# Altium integrated library Renesas Microcontroller H8S.IntLib: 670 symbols (part 43 of 70)
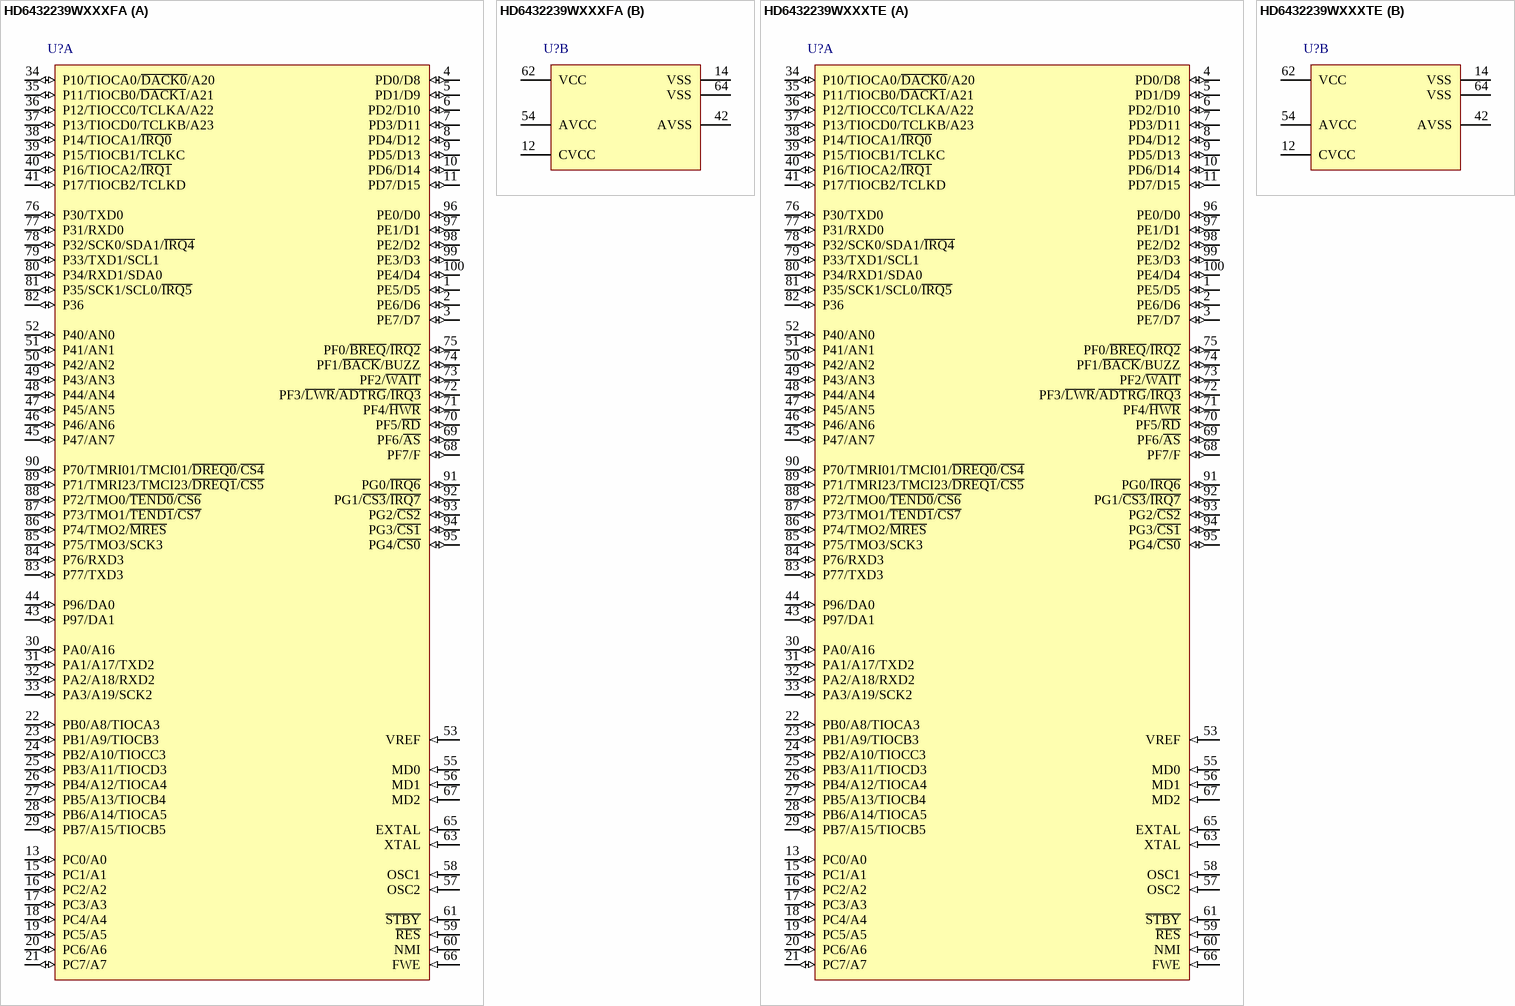
[diagram p266: symbols HD6432239WXXXFA to HD6432239WXXXTE]

## HD6432239WXXXTE
designator U?
Mask ROM H8S/2200 Series, 2239 Group MCU, 384K ROM, 32K RAM, TFP-100B Pkg; Published: 28-Aug-2009; DatasheetVersion: Rev.5.00, Aug-2006; PackageVersion: Sep-2005; PackageReference: PTQP0100KA-A; Publisher: Altium Limited; PackageDescription: 100-Pin Plastic Thin Quad Flat Pack, 14 x 14 x 1.0 mm Body, 0.5 mm Pitch; Code_JEITA: P-TQFP100-14x14-0.50; ComponentLink1Description: Manufacturer Link; ComponentLink1URL: http://sg.renesas.com/fmwk.jsp?cnt=h8s_family_landing.jsp&fp=/products/mpumcu/h8s_family/; ComponentLink2Description: Datasheet; ComponentLink2URL: http://documentation.renesas.com/eng/products/mpumcu/rej09b0054_h8s2239.pdf; ComponentLink3Description: Packaging Specification; ComponentLink3URL: http://sg.renesas.com/media/products/common_info/package/pdf/ic/code/ptqp0100ka_a.pdf
footprint PTQP0100KA-A_N (Thin QFP, 100-Leads, Body 14x14mm, Pitch 0.5mm, IPC Medium Density)
footprint PTQP0100KA-A_L (Thin QFP, 100-Leads, Body 14x14mm, Pitch 0.5mm, IPC High Density)
footprint PTQP0100KA-A_M (Thin QFP, 100-Leads, Body 14x14mm, Pitch 0.5mm, IPC Low Density)
part A pins: 1 PE5/D5 (io), 2 PE6/D6 (io), 3 PE7/D7 (io), 4 PD0/D8 (io), 5 PD1/D9 (io), 6 PD2/D10 (io), 7 PD3/D11 (io), 8 PD4/D12 (io), 9 PD5/D13 (io), 10 PD6/D14 (io), 11 PD7/D15 (io), 13 PC0/A0 (io), 15 PC1/A1 (io), 16 PC2/A2 (io), 17 PC3/A3 (io), 18 PC4/A4 (io), 19 PC5/A5 (io), 20 PC6/A6 (io), 21 PC7/A7 (io), 22 PB0/A8/TIOCA3 (io), 23 PB1/A9/TIOCB3 (io), 24 PB2/A10/TIOCC3 (io), 25 PB3/A11/TIOCD3 (io), 26 PB4/A12/TIOCA4 (io), 27 PB5/A13/TIOCB4 (io), 28 PB6/A14/TIOCA5 (io), 29 PB7/A15/TIOCB5 (io), 30 PA0/A16 (io), 31 PA1/A17/TXD2 (io), 32 PA2/A18/RXD2 (io), 33 PA3/A19/SCK2 (io), 34 P10/TIOCA0/~{DACK0}/A20 (io), 35 P11/TIOCB0/~{DACK1}/A21 (io), 36 P12/TIOCC0/TCLKA/A22 (io), 37 P13/TIOCD0/TCLKB/A23 (io), 38 P14/TIOCA1/~{IRQ0} (io), 39 P15/TIOCB1/TCLKC (io), 40 P16/TIOCA2/~{IRQ1} (io), 41 P17/TIOCB2/TCLKD (io), 43 P97/DA1 (io), 44 P96/DA0 (io), 45 P47/AN7 (io), 46 P46/AN6 (io), 47 P45/AN5 (io), 48 P44/AN4 (io), 49 P43/AN3 (io), 50 P42/AN2 (io), 51 P41/AN1 (io), 52 P40/AN0 (io), 53 VREF (in), 55 MD0 (in), 56 MD1 (in), 57 OSC2 (in), 58 OSC1 (in), 59 ~{RES} (in), 60 NMI (in), 61 ~{STBY} (in), 63 XTAL (in), 65 EXTAL (in), 66 FWE (in), 67 MD2 (in), 68 PF7/F (io), 69 PF6/~{AS} (io), 70 PF5/~{RD} (io), 71 PF4/~{HWR} (io), 72 PF3/~{LWR}/~{ADTRG}/~{IRQ3} (io), 73 PF2/~{WAIT} (io), 74 PF1/~{BACK}/BUZZ (io), 75 PF0/~{BREQ}/~{IRQ2} (io), 76 P30/TXD0 (io), 77 P31/RXD0 (io), 78 P32/SCK0/SDA1/~{IRQ4} (io), 79 P33/TXD1/SCL1 (io), 80 P34/RXD1/SDA0 (io), 81 P35/SCK1/SCL0/~{IRQ5} (io), 82 P36 (io), 83 P77/TXD3 (io), 84 P76/RXD3 (io), 85 P75/TMO3/SCK3 (io), 86 P74/TMO2/~{MRES} (io), 87 P73/TMO1/~{TEND1}/~{CS7} (io), 88 P72/TMO0/~{TEND0}/~{CS6} (io), 89 P71/TMRI23/TMCI23/~{DREQ1}/~{CS5} (io), 90 P70/TMRI01/TMCI01/~{DREQ0}/~{CS4} (io), 91 PG0/~{IRQ6} (io), 92 PG1/~{CS3}/~{IRQ7} (io), 93 PG2/~{CS2} (io), 94 PG3/~{CS1} (io), 95 PG4/~{CS0} (io), 96 PE0/D0 (io), 97 PE1/D1 (io), 98 PE2/D2 (io), 99 PE3/D3 (io), 100 PE4/D4 (io)
part B pins: 12 CVCC, 14 VSS (power), 42 AVSS (power), 54 AVCC (power), 62 VCC (power), 64 VSS (power)

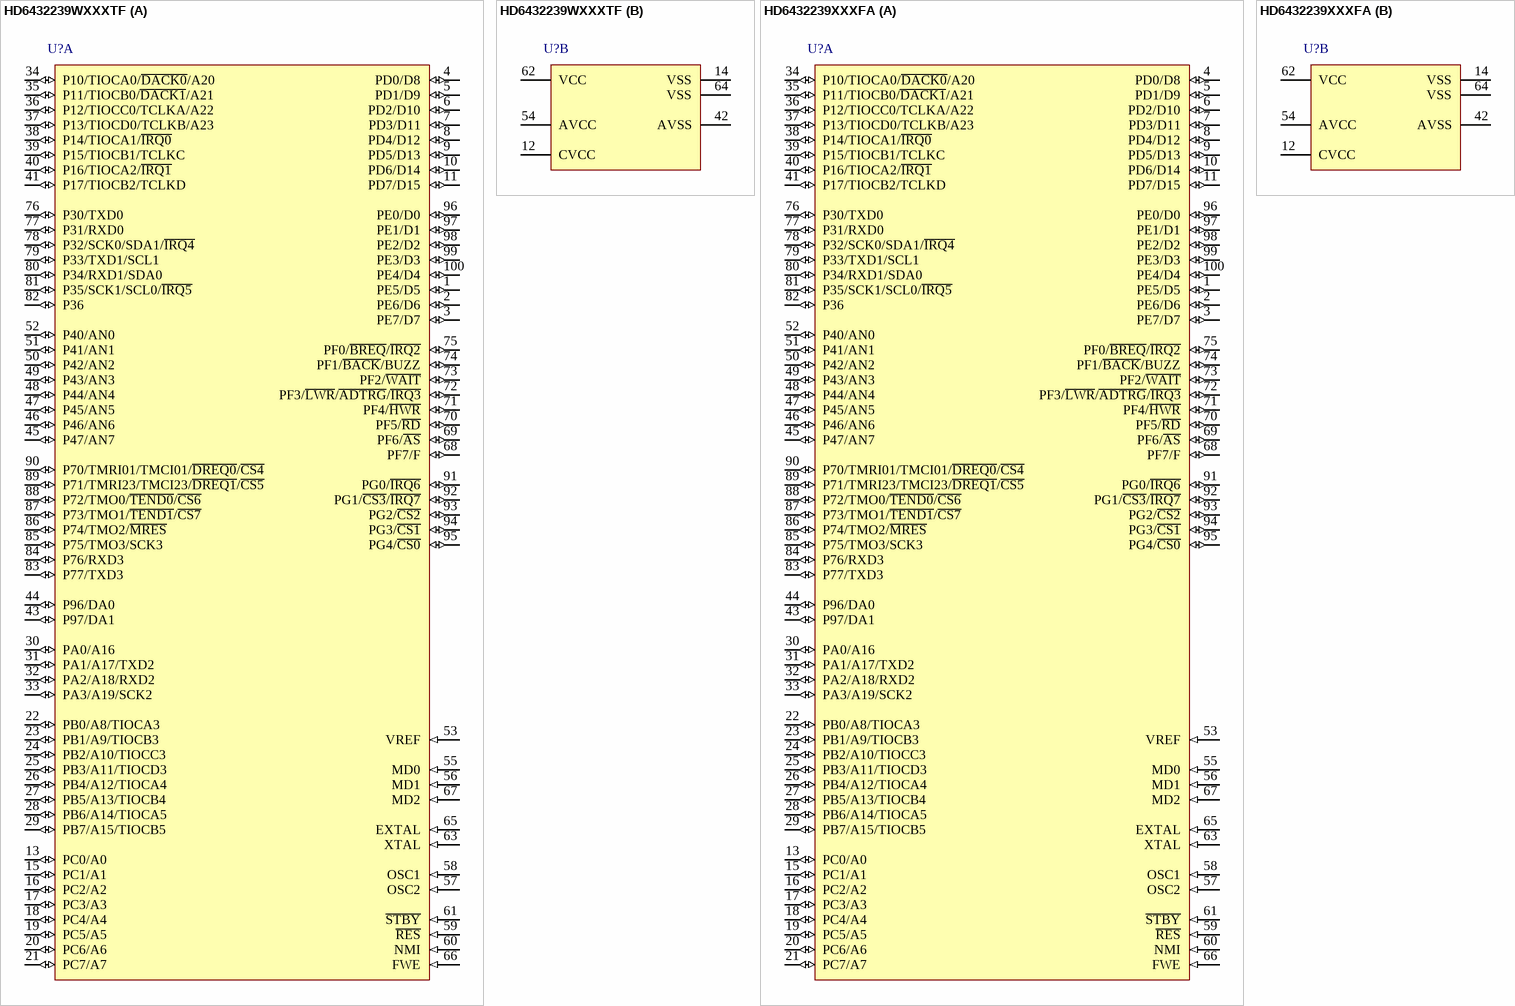
[diagram p148: symbols HD6432239WXXXTF to HD6432239XXXFA]

## HD6432239WXXXTF
designator U?
Mask ROM H8S/2200 Series, 2239 Group MCU, 384K ROM, 32K RAM, TFP-100G Pkg; Published: 28-Aug-2009; DatasheetVersion: Rev.5.00, Aug-2006; PackageVersion: Sep-2005; PackageReference: PTQP0100LC-A; Publisher: Altium Limited; PackageDescription: 100-Pin Plastic Thin QFP, 12 x 12 x 1.0 mm Body, 0.4 mm Pitch; Code_JEITA: P-TQFP100-12x12-0.40; ComponentLink1Description: Manufacturer Link; ComponentLink1URL: http://sg.renesas.com/fmwk.jsp?cnt=h8s_family_landing.jsp&fp=/products/mpumcu/h8s_family/; ComponentLink2Description: Datasheet; ComponentLink2URL: http://documentation.renesas.com/eng/products/mpumcu/rej09b0054_h8s2239.pdf; ComponentLink3Description: Packaging Specification; ComponentLink3URL: http://sg.renesas.com/media/products/common_info/package/pdf/ic/code/ptqp0100lc_a.pdf
footprint PTQP0100LC-A_N (Thin QFP, 100-Leads, Body 12x12mm, Pitch 0.4mm, IPC Medium Density)
footprint PTQP0100LC-A_L (Thin QFP, 100-Leads, Body 12x12mm, Pitch 0.4mm, IPC High Density)
footprint PTQP0100LC-A_M (Thin QFP, 100-Leads, Body 12x12mm, Pitch 0.4mm, IPC Low Density)
part A pins: 1 PE5/D5 (io), 2 PE6/D6 (io), 3 PE7/D7 (io), 4 PD0/D8 (io), 5 PD1/D9 (io), 6 PD2/D10 (io), 7 PD3/D11 (io), 8 PD4/D12 (io), 9 PD5/D13 (io), 10 PD6/D14 (io), 11 PD7/D15 (io), 13 PC0/A0 (io), 15 PC1/A1 (io), 16 PC2/A2 (io), 17 PC3/A3 (io), 18 PC4/A4 (io), 19 PC5/A5 (io), 20 PC6/A6 (io), 21 PC7/A7 (io), 22 PB0/A8/TIOCA3 (io), 23 PB1/A9/TIOCB3 (io), 24 PB2/A10/TIOCC3 (io), 25 PB3/A11/TIOCD3 (io), 26 PB4/A12/TIOCA4 (io), 27 PB5/A13/TIOCB4 (io), 28 PB6/A14/TIOCA5 (io), 29 PB7/A15/TIOCB5 (io), 30 PA0/A16 (io), 31 PA1/A17/TXD2 (io), 32 PA2/A18/RXD2 (io), 33 PA3/A19/SCK2 (io), 34 P10/TIOCA0/~{DACK0}/A20 (io), 35 P11/TIOCB0/~{DACK1}/A21 (io), 36 P12/TIOCC0/TCLKA/A22 (io), 37 P13/TIOCD0/TCLKB/A23 (io), 38 P14/TIOCA1/~{IRQ0} (io), 39 P15/TIOCB1/TCLKC (io), 40 P16/TIOCA2/~{IRQ1} (io), 41 P17/TIOCB2/TCLKD (io), 43 P97/DA1 (io), 44 P96/DA0 (io), 45 P47/AN7 (io), 46 P46/AN6 (io), 47 P45/AN5 (io), 48 P44/AN4 (io), 49 P43/AN3 (io), 50 P42/AN2 (io), 51 P41/AN1 (io), 52 P40/AN0 (io), 53 VREF (in), 55 MD0 (in), 56 MD1 (in), 57 OSC2 (in), 58 OSC1 (in), 59 ~{RES} (in), 60 NMI (in), 61 ~{STBY} (in), 63 XTAL (in), 65 EXTAL (in), 66 FWE (in), 67 MD2 (in), 68 PF7/F (io), 69 PF6/~{AS} (io), 70 PF5/~{RD} (io), 71 PF4/~{HWR} (io), 72 PF3/~{LWR}/~{ADTRG}/~{IRQ3} (io), 73 PF2/~{WAIT} (io), 74 PF1/~{BACK}/BUZZ (io), 75 PF0/~{BREQ}/~{IRQ2} (io), 76 P30/TXD0 (io), 77 P31/RXD0 (io), 78 P32/SCK0/SDA1/~{IRQ4} (io), 79 P33/TXD1/SCL1 (io), 80 P34/RXD1/SDA0 (io), 81 P35/SCK1/SCL0/~{IRQ5} (io), 82 P36 (io), 83 P77/TXD3 (io), 84 P76/RXD3 (io), 85 P75/TMO3/SCK3 (io), 86 P74/TMO2/~{MRES} (io), 87 P73/TMO1/~{TEND1}/~{CS7} (io), 88 P72/TMO0/~{TEND0}/~{CS6} (io), 89 P71/TMRI23/TMCI23/~{DREQ1}/~{CS5} (io), 90 P70/TMRI01/TMCI01/~{DREQ0}/~{CS4} (io), 91 PG0/~{IRQ6} (io), 92 PG1/~{CS3}/~{IRQ7} (io), 93 PG2/~{CS2} (io), 94 PG3/~{CS1} (io), 95 PG4/~{CS0} (io), 96 PE0/D0 (io), 97 PE1/D1 (io), 98 PE2/D2 (io), 99 PE3/D3 (io), 100 PE4/D4 (io)
part B pins: 12 CVCC, 14 VSS (power), 42 AVSS (power), 54 AVCC (power), 62 VCC (power), 64 VSS (power)

## HD6432239XXXFA
designator U?
Mask ROM H8S/2200 Series, 2239 Group MCU, 384K ROM, 32K RAM, FP-100B Pkg; Published: 28-Aug-2009; DatasheetVersion: Rev.5.00, Aug-2006; PackageVersion: Sep-2009; PackageReference: PRQP0100KA-A; Publisher: Altium Limited; PackageDescription: 100-Pin Plastic Quad Flat Pack, 14 x 14 x 2.7 mm Body, 0.5 mm Pitch; Code_JEITA: P-QFP100-14x14-0.50; ComponentLink1Description: Manufacturer Link; ComponentLink1URL: http://sg.renesas.com/fmwk.jsp?cnt=h8s_family_landing.jsp&fp=/products/mpumcu/h8s_family/; ComponentLink2Description: Datasheet; ComponentLink2URL: http://documentation.renesas.com/eng/products/mpumcu/rej09b0054_h8s2239.pdf; ComponentLink3Description: Packaging Specification; ComponentLink3URL: http://sg.renesas.com/media/products/common_info/package/pdf/ic/code/prqp0100ka_a.pdf
footprint PRQP0100KA-A_N (Shrink QFP, 100-Leads, Body 14x14mm, Pitch 0.5mm, IPC Medium Density)
footprint PRQP0100KA-A_L (Shrink QFP, 100-Leads, Body 14x14mm, Pitch 0.5mm, IPC High Density)
footprint PRQP0100KA-A_M (Shrink QFP, 100-Leads, Body 14x14mm, Pitch 0.5mm, IPC Low Density)
part A pins: 1 PE5/D5 (io), 2 PE6/D6 (io), 3 PE7/D7 (io), 4 PD0/D8 (io), 5 PD1/D9 (io), 6 PD2/D10 (io), 7 PD3/D11 (io), 8 PD4/D12 (io), 9 PD5/D13 (io), 10 PD6/D14 (io), 11 PD7/D15 (io), 13 PC0/A0 (io), 15 PC1/A1 (io), 16 PC2/A2 (io), 17 PC3/A3 (io), 18 PC4/A4 (io), 19 PC5/A5 (io), 20 PC6/A6 (io), 21 PC7/A7 (io), 22 PB0/A8/TIOCA3 (io), 23 PB1/A9/TIOCB3 (io), 24 PB2/A10/TIOCC3 (io), 25 PB3/A11/TIOCD3 (io), 26 PB4/A12/TIOCA4 (io), 27 PB5/A13/TIOCB4 (io), 28 PB6/A14/TIOCA5 (io), 29 PB7/A15/TIOCB5 (io), 30 PA0/A16 (io), 31 PA1/A17/TXD2 (io), 32 PA2/A18/RXD2 (io), 33 PA3/A19/SCK2 (io), 34 P10/TIOCA0/~{DACK0}/A20 (io), 35 P11/TIOCB0/~{DACK1}/A21 (io), 36 P12/TIOCC0/TCLKA/A22 (io), 37 P13/TIOCD0/TCLKB/A23 (io), 38 P14/TIOCA1/~{IRQ0} (io), 39 P15/TIOCB1/TCLKC (io), 40 P16/TIOCA2/~{IRQ1} (io), 41 P17/TIOCB2/TCLKD (io), 43 P97/DA1 (io), 44 P96/DA0 (io), 45 P47/AN7 (io), 46 P46/AN6 (io), 47 P45/AN5 (io), 48 P44/AN4 (io), 49 P43/AN3 (io), 50 P42/AN2 (io), 51 P41/AN1 (io), 52 P40/AN0 (io), 53 VREF (in), 55 MD0 (in), 56 MD1 (in), 57 OSC2 (in), 58 OSC1 (in), 59 ~{RES} (in), 60 NMI (in), 61 ~{STBY} (in), 63 XTAL (in), 65 EXTAL (in), 66 FWE (in), 67 MD2 (in), 68 PF7/F (io), 69 PF6/~{AS} (io), 70 PF5/~{RD} (io), 71 PF4/~{HWR} (io), 72 PF3/~{LWR}/~{ADTRG}/~{IRQ3} (io), 73 PF2/~{WAIT} (io), 74 PF1/~{BACK}/BUZZ (io), 75 PF0/~{BREQ}/~{IRQ2} (io), 76 P30/TXD0 (io), 77 P31/RXD0 (io), 78 P32/SCK0/SDA1/~{IRQ4} (io), 79 P33/TXD1/SCL1 (io), 80 P34/RXD1/SDA0 (io), 81 P35/SCK1/SCL0/~{IRQ5} (io), 82 P36 (io), 83 P77/TXD3 (io), 84 P76/RXD3 (io), 85 P75/TMO3/SCK3 (io), 86 P74/TMO2/~{MRES} (io), 87 P73/TMO1/~{TEND1}/~{CS7} (io), 88 P72/TMO0/~{TEND0}/~{CS6} (io), 89 P71/TMRI23/TMCI23/~{DREQ1}/~{CS5} (io), 90 P70/TMRI01/TMCI01/~{DREQ0}/~{CS4} (io), 91 PG0/~{IRQ6} (io), 92 PG1/~{CS3}/~{IRQ7} (io), 93 PG2/~{CS2} (io), 94 PG3/~{CS1} (io), 95 PG4/~{CS0} (io), 96 PE0/D0 (io), 97 PE1/D1 (io), 98 PE2/D2 (io), 99 PE3/D3 (io), 100 PE4/D4 (io)
part B pins: 12 CVCC, 14 VSS (power), 42 AVSS (power), 54 AVCC (power), 62 VCC (power), 64 VSS (power)

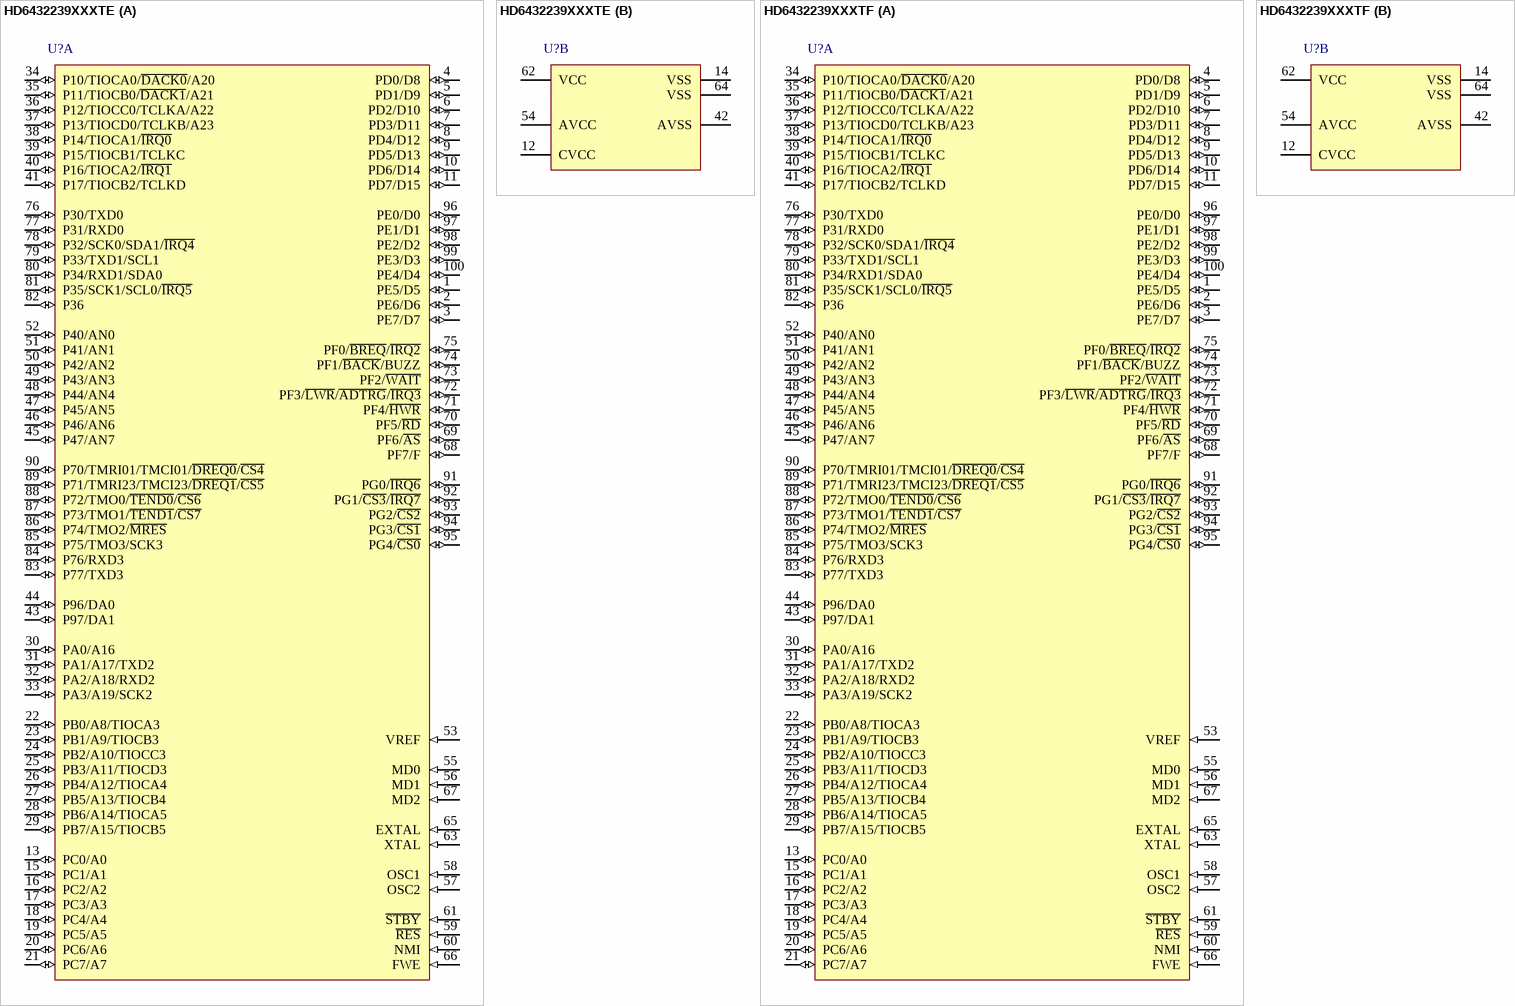
[diagram p149: symbols HD6432239XXXTE to HD6432239XXXTF]

## HD6432239XXXTE
designator U?
Mask ROM H8S/2200 Series, 2239 Group MCU, 384K ROM, 32K RAM, TFP-100B Pkg; Published: 28-Aug-2009; DatasheetVersion: Rev.5.00, Aug-2006; PackageVersion: Sep-2005; PackageReference: PTQP0100KA-A; Publisher: Altium Limited; PackageDescription: 100-Pin Plastic Thin Quad Flat Pack, 14 x 14 x 1.0 mm Body, 0.5 mm Pitch; Code_JEITA: P-TQFP100-14x14-0.50; ComponentLink1Description: Manufacturer Link; ComponentLink1URL: http://sg.renesas.com/fmwk.jsp?cnt=h8s_family_landing.jsp&fp=/products/mpumcu/h8s_family/; ComponentLink2Description: Datasheet; ComponentLink2URL: http://documentation.renesas.com/eng/products/mpumcu/rej09b0054_h8s2239.pdf; ComponentLink3Description: Packaging Specification; ComponentLink3URL: http://sg.renesas.com/media/products/common_info/package/pdf/ic/code/ptqp0100ka_a.pdf
footprint PTQP0100KA-A_N (Thin QFP, 100-Leads, Body 14x14mm, Pitch 0.5mm, IPC Medium Density)
footprint PTQP0100KA-A_L (Thin QFP, 100-Leads, Body 14x14mm, Pitch 0.5mm, IPC High Density)
footprint PTQP0100KA-A_M (Thin QFP, 100-Leads, Body 14x14mm, Pitch 0.5mm, IPC Low Density)
part A pins: 1 PE5/D5 (io), 2 PE6/D6 (io), 3 PE7/D7 (io), 4 PD0/D8 (io), 5 PD1/D9 (io), 6 PD2/D10 (io), 7 PD3/D11 (io), 8 PD4/D12 (io), 9 PD5/D13 (io), 10 PD6/D14 (io), 11 PD7/D15 (io), 13 PC0/A0 (io), 15 PC1/A1 (io), 16 PC2/A2 (io), 17 PC3/A3 (io), 18 PC4/A4 (io), 19 PC5/A5 (io), 20 PC6/A6 (io), 21 PC7/A7 (io), 22 PB0/A8/TIOCA3 (io), 23 PB1/A9/TIOCB3 (io), 24 PB2/A10/TIOCC3 (io), 25 PB3/A11/TIOCD3 (io), 26 PB4/A12/TIOCA4 (io), 27 PB5/A13/TIOCB4 (io), 28 PB6/A14/TIOCA5 (io), 29 PB7/A15/TIOCB5 (io), 30 PA0/A16 (io), 31 PA1/A17/TXD2 (io), 32 PA2/A18/RXD2 (io), 33 PA3/A19/SCK2 (io), 34 P10/TIOCA0/~{DACK0}/A20 (io), 35 P11/TIOCB0/~{DACK1}/A21 (io), 36 P12/TIOCC0/TCLKA/A22 (io), 37 P13/TIOCD0/TCLKB/A23 (io), 38 P14/TIOCA1/~{IRQ0} (io), 39 P15/TIOCB1/TCLKC (io), 40 P16/TIOCA2/~{IRQ1} (io), 41 P17/TIOCB2/TCLKD (io), 43 P97/DA1 (io), 44 P96/DA0 (io), 45 P47/AN7 (io), 46 P46/AN6 (io), 47 P45/AN5 (io), 48 P44/AN4 (io), 49 P43/AN3 (io), 50 P42/AN2 (io), 51 P41/AN1 (io), 52 P40/AN0 (io), 53 VREF (in), 55 MD0 (in), 56 MD1 (in), 57 OSC2 (in), 58 OSC1 (in), 59 ~{RES} (in), 60 NMI (in), 61 ~{STBY} (in), 63 XTAL (in), 65 EXTAL (in), 66 FWE (in), 67 MD2 (in), 68 PF7/F (io), 69 PF6/~{AS} (io), 70 PF5/~{RD} (io), 71 PF4/~{HWR} (io), 72 PF3/~{LWR}/~{ADTRG}/~{IRQ3} (io), 73 PF2/~{WAIT} (io), 74 PF1/~{BACK}/BUZZ (io), 75 PF0/~{BREQ}/~{IRQ2} (io), 76 P30/TXD0 (io), 77 P31/RXD0 (io), 78 P32/SCK0/SDA1/~{IRQ4} (io), 79 P33/TXD1/SCL1 (io), 80 P34/RXD1/SDA0 (io), 81 P35/SCK1/SCL0/~{IRQ5} (io), 82 P36 (io), 83 P77/TXD3 (io), 84 P76/RXD3 (io), 85 P75/TMO3/SCK3 (io), 86 P74/TMO2/~{MRES} (io), 87 P73/TMO1/~{TEND1}/~{CS7} (io), 88 P72/TMO0/~{TEND0}/~{CS6} (io), 89 P71/TMRI23/TMCI23/~{DREQ1}/~{CS5} (io), 90 P70/TMRI01/TMCI01/~{DREQ0}/~{CS4} (io), 91 PG0/~{IRQ6} (io), 92 PG1/~{CS3}/~{IRQ7} (io), 93 PG2/~{CS2} (io), 94 PG3/~{CS1} (io), 95 PG4/~{CS0} (io), 96 PE0/D0 (io), 97 PE1/D1 (io), 98 PE2/D2 (io), 99 PE3/D3 (io), 100 PE4/D4 (io)
part B pins: 12 CVCC, 14 VSS (power), 42 AVSS (power), 54 AVCC (power), 62 VCC (power), 64 VSS (power)

## HD6432239XXXTF
designator U?
Mask ROM H8S/2200 Series, 2239 Group MCU, 384K ROM, 32K RAM, TFP-100G Pkg; Published: 28-Aug-2009; DatasheetVersion: Rev.5.00, Aug-2006; PackageVersion: Sep-2005; PackageReference: PTQP0100LC-A; Publisher: Altium Limited; PackageDescription: 100-Pin Plastic Thin QFP, 12 x 12 x 1.0 mm Body, 0.4 mm Pitch; Code_JEITA: P-TQFP100-12x12-0.40; ComponentLink1Description: Manufacturer Link; ComponentLink1URL: http://sg.renesas.com/fmwk.jsp?cnt=h8s_family_landing.jsp&fp=/products/mpumcu/h8s_family/; ComponentLink2Description: Datasheet; ComponentLink2URL: http://documentation.renesas.com/eng/products/mpumcu/rej09b0054_h8s2239.pdf; ComponentLink3Description: Packaging Specification; ComponentLink3URL: http://sg.renesas.com/media/products/common_info/package/pdf/ic/code/ptqp0100lc_a.pdf
footprint PTQP0100LC-A_N (Thin QFP, 100-Leads, Body 12x12mm, Pitch 0.4mm, IPC Medium Density)
footprint PTQP0100LC-A_L (Thin QFP, 100-Leads, Body 12x12mm, Pitch 0.4mm, IPC High Density)
footprint PTQP0100LC-A_M (Thin QFP, 100-Leads, Body 12x12mm, Pitch 0.4mm, IPC Low Density)
part A pins: 1 PE5/D5 (io), 2 PE6/D6 (io), 3 PE7/D7 (io), 4 PD0/D8 (io), 5 PD1/D9 (io), 6 PD2/D10 (io), 7 PD3/D11 (io), 8 PD4/D12 (io), 9 PD5/D13 (io), 10 PD6/D14 (io), 11 PD7/D15 (io), 13 PC0/A0 (io), 15 PC1/A1 (io), 16 PC2/A2 (io), 17 PC3/A3 (io), 18 PC4/A4 (io), 19 PC5/A5 (io), 20 PC6/A6 (io), 21 PC7/A7 (io), 22 PB0/A8/TIOCA3 (io), 23 PB1/A9/TIOCB3 (io), 24 PB2/A10/TIOCC3 (io), 25 PB3/A11/TIOCD3 (io), 26 PB4/A12/TIOCA4 (io), 27 PB5/A13/TIOCB4 (io), 28 PB6/A14/TIOCA5 (io), 29 PB7/A15/TIOCB5 (io), 30 PA0/A16 (io), 31 PA1/A17/TXD2 (io), 32 PA2/A18/RXD2 (io), 33 PA3/A19/SCK2 (io), 34 P10/TIOCA0/~{DACK0}/A20 (io), 35 P11/TIOCB0/~{DACK1}/A21 (io), 36 P12/TIOCC0/TCLKA/A22 (io), 37 P13/TIOCD0/TCLKB/A23 (io), 38 P14/TIOCA1/~{IRQ0} (io), 39 P15/TIOCB1/TCLKC (io), 40 P16/TIOCA2/~{IRQ1} (io), 41 P17/TIOCB2/TCLKD (io), 43 P97/DA1 (io), 44 P96/DA0 (io), 45 P47/AN7 (io), 46 P46/AN6 (io), 47 P45/AN5 (io), 48 P44/AN4 (io), 49 P43/AN3 (io), 50 P42/AN2 (io), 51 P41/AN1 (io), 52 P40/AN0 (io), 53 VREF (in), 55 MD0 (in), 56 MD1 (in), 57 OSC2 (in), 58 OSC1 (in), 59 ~{RES} (in), 60 NMI (in), 61 ~{STBY} (in), 63 XTAL (in), 65 EXTAL (in), 66 FWE (in), 67 MD2 (in), 68 PF7/F (io), 69 PF6/~{AS} (io), 70 PF5/~{RD} (io), 71 PF4/~{HWR} (io), 72 PF3/~{LWR}/~{ADTRG}/~{IRQ3} (io), 73 PF2/~{WAIT} (io), 74 PF1/~{BACK}/BUZZ (io), 75 PF0/~{BREQ}/~{IRQ2} (io), 76 P30/TXD0 (io), 77 P31/RXD0 (io), 78 P32/SCK0/SDA1/~{IRQ4} (io), 79 P33/TXD1/SCL1 (io), 80 P34/RXD1/SDA0 (io), 81 P35/SCK1/SCL0/~{IRQ5} (io), 82 P36 (io), 83 P77/TXD3 (io), 84 P76/RXD3 (io), 85 P75/TMO3/SCK3 (io), 86 P74/TMO2/~{MRES} (io), 87 P73/TMO1/~{TEND1}/~{CS7} (io), 88 P72/TMO0/~{TEND0}/~{CS6} (io), 89 P71/TMRI23/TMCI23/~{DREQ1}/~{CS5} (io), 90 P70/TMRI01/TMCI01/~{DREQ0}/~{CS4} (io), 91 PG0/~{IRQ6} (io), 92 PG1/~{CS3}/~{IRQ7} (io), 93 PG2/~{CS2} (io), 94 PG3/~{CS1} (io), 95 PG4/~{CS0} (io), 96 PE0/D0 (io), 97 PE1/D1 (io), 98 PE2/D2 (io), 99 PE3/D3 (io), 100 PE4/D4 (io)
part B pins: 12 CVCC, 14 VSS (power), 42 AVSS (power), 54 AVCC (power), 62 VCC (power), 64 VSS (power)

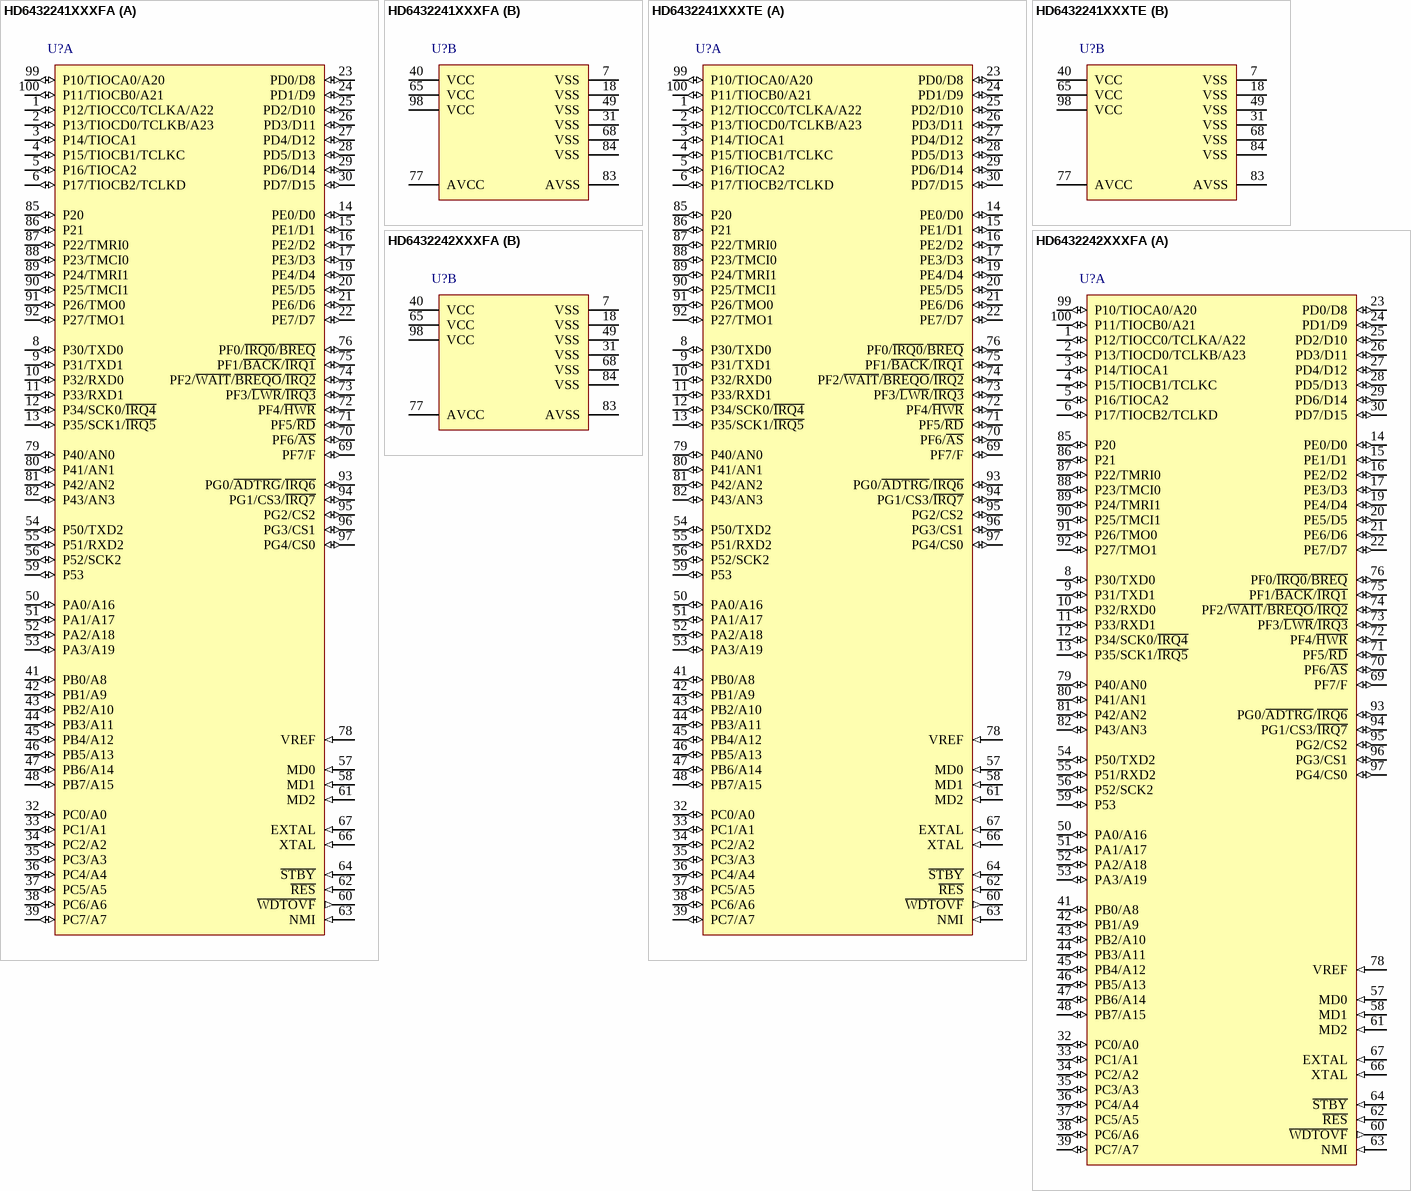
[diagram p150: symbols HD6432241XXXFA to HD6432242XXXFA]

## HD6432241XXXFA
designator U?
Mask ROM H8S/2200 Series, 2245 Group MCU, 32K ROM, 4K RAM, FP-100B Pkg; Published: 28-Aug-2009; DatasheetVersion: Rev.3.00, Mar-2007; PackageVersion: Sep-2009; PackageReference: PRQP0100KA-A; Publisher: Altium Limited; PackageDescription: 100-Pin Plastic Quad Flat Pack, 14 x 14 x 2.7 mm Body, 0.5 mm Pitch; Code_JEITA: P-QFP100-14x14-0.50; ComponentLink1Description: Manufacturer Link; ComponentLink1URL: http://sg.renesas.com/fmwk.jsp?cnt=h8s_family_landing.jsp&fp=/products/mpumcu/h8s_family/; ComponentLink2Description: Datasheet; ComponentLink2URL: http://documentation.renesas.com/eng/products/mpumcu/rej09b0355_2245hm.pdf; ComponentLink3Description: Packaging Specification; ComponentLink3URL: http://sg.renesas.com/media/products/common_info/package/pdf/ic/code/prqp0100ka_a.pdf
footprint PRQP0100KA-A_N (Shrink QFP, 100-Leads, Body 14x14mm, Pitch 0.5mm, IPC Medium Density)
footprint PRQP0100KA-A_L (Shrink QFP, 100-Leads, Body 14x14mm, Pitch 0.5mm, IPC High Density)
footprint PRQP0100KA-A_M (Shrink QFP, 100-Leads, Body 14x14mm, Pitch 0.5mm, IPC Low Density)
part A pins: 1 P12/TIOCC0/TCLKA/A22 (io), 2 P13/TIOCD0/TCLKB/A23 (io), 3 P14/TIOCA1 (io), 4 P15/TIOCB1/TCLKC (io), 5 P16/TIOCA2 (io), 6 P17/TIOCB2/TCLKD (io), 8 P30/TXD0 (io), 9 P31/TXD1 (io), 10 P32/RXD0 (io), 11 P33/RXD1 (io), 12 P34/SCK0/~{IRQ4} (io), 13 P35/SCK1/~{IRQ5} (io), 14 PE0/D0 (io), 15 PE1/D1 (io), 16 PE2/D2 (io), 17 PE3/D3 (io), 19 PE4/D4 (io), 20 PE5/D5 (io), 21 PE6/D6 (io), 22 PE7/D7 (io), 23 PD0/D8 (io), 24 PD1/D9 (io), 25 PD2/D10 (io), 26 PD3/D11 (io), 27 PD4/D12 (io), 28 PD5/D13 (io), 29 PD6/D14 (io), 30 PD7/D15 (io), 32 PC0/A0 (io), 33 PC1/A1 (io), 34 PC2/A2 (io), 35 PC3/A3 (io), 36 PC4/A4 (io), 37 PC5/A5 (io), 38 PC6/A6 (io), 39 PC7/A7 (io), 41 PB0/A8 (io), 42 PB1/A9 (io), 43 PB2/A10 (io), 44 PB3/A11 (io), 45 PB4/A12 (io), 46 PB5/A13 (io), 47 PB6/A14 (io), 48 PB7/A15 (io), 50 PA0/A16 (io), 51 PA1/A17 (io), 52 PA2/A18 (io), 53 PA3/A19 (io), 54 P50/TXD2 (io), 55 P51/RXD2 (io), 56 P52/SCK2 (io), 57 MD0 (in), 58 MD1 (in), 59 P53 (io), 60 ~{WDTOVF} (out), 61 MD2 (in), 62 ~{RES} (in), 63 NMI (in), 64 ~{STBY} (in), 66 XTAL (in), 67 EXTAL (in), 69 PF7/F (io), 70 PF6/~{AS} (io), 71 PF5/~{RD} (io), 72 PF4/~{HWR} (io), 73 PF3/~{LWR}/~{IRQ3} (io), 74 PF2/~{WAIT}/~{BREQO}/~{IRQ2} (io), 75 PF1/~{BACK}/~{IRQ1} (io), 76 PF0/~{IRQ0}/~{BREQ} (io), 78 VREF (in), 79 P40/AN0 (io), 80 P41/AN1 (io), 81 P42/AN2 (io), 82 P43/AN3 (io), 85 P20 (io), 86 P21 (io), 87 P22/TMRI0 (io), 88 P23/TMCI0 (io), 89 P24/TMRI1 (io), 90 P25/TMCI1 (io), 91 P26/TMO0 (io), 92 P27/TMO1 (io), 93 PG0/~{ADTRG}/~{IRQ6} (io), 94 PG1/CS3/~{IRQ7} (io), 95 PG2/CS2 (io), 96 PG3/CS1 (io), 97 PG4/CS0 (io), 99 P10/TIOCA0/A20 (io), 100 P11/TIOCB0/A21 (io)
part B pins: 7 VSS (power), 18 VSS (power), 31 VSS (power), 40 VCC (power), 49 VSS (power), 65 VCC (power), 68 VSS (power), 77 AVCC (power), 83 AVSS (power), 84 VSS (power), 98 VCC (power)

## HD6432241XXXTE
designator U?
Mask ROM H8S/2200 Series, 2245 Group MCU, 32K ROM, 4K RAM, TFP-100B Pkg; Published: 28-Aug-2009; DatasheetVersion: Rev.3.00, Mar-2007; PackageVersion: Sep-2005; PackageReference: PTQP0100KA-A; Publisher: Altium Limited; PackageDescription: 100-Pin Plastic Thin Quad Flat Pack, 14 x 14 x 1.0 mm Body, 0.5 mm Pitch; Code_JEITA: P-TQFP100-14x14-0.50; ComponentLink1Description: Manufacturer Link; ComponentLink1URL: http://sg.renesas.com/fmwk.jsp?cnt=h8s_family_landing.jsp&fp=/products/mpumcu/h8s_family/; ComponentLink2Description: Datasheet; ComponentLink2URL: http://documentation.renesas.com/eng/products/mpumcu/rej09b0355_2245hm.pdf; ComponentLink3Description: Packaging Specification; ComponentLink3URL: http://sg.renesas.com/media/products/common_info/package/pdf/ic/code/ptqp0100ka_a.pdf
footprint PTQP0100KA-A_N (Thin QFP, 100-Leads, Body 14x14mm, Pitch 0.5mm, IPC Medium Density)
footprint PTQP0100KA-A_L (Thin QFP, 100-Leads, Body 14x14mm, Pitch 0.5mm, IPC High Density)
footprint PTQP0100KA-A_M (Thin QFP, 100-Leads, Body 14x14mm, Pitch 0.5mm, IPC Low Density)
part A pins: 1 P12/TIOCC0/TCLKA/A22 (io), 2 P13/TIOCD0/TCLKB/A23 (io), 3 P14/TIOCA1 (io), 4 P15/TIOCB1/TCLKC (io), 5 P16/TIOCA2 (io), 6 P17/TIOCB2/TCLKD (io), 8 P30/TXD0 (io), 9 P31/TXD1 (io), 10 P32/RXD0 (io), 11 P33/RXD1 (io), 12 P34/SCK0/~{IRQ4} (io), 13 P35/SCK1/~{IRQ5} (io), 14 PE0/D0 (io), 15 PE1/D1 (io), 16 PE2/D2 (io), 17 PE3/D3 (io), 19 PE4/D4 (io), 20 PE5/D5 (io), 21 PE6/D6 (io), 22 PE7/D7 (io), 23 PD0/D8 (io), 24 PD1/D9 (io), 25 PD2/D10 (io), 26 PD3/D11 (io), 27 PD4/D12 (io), 28 PD5/D13 (io), 29 PD6/D14 (io), 30 PD7/D15 (io), 32 PC0/A0 (io), 33 PC1/A1 (io), 34 PC2/A2 (io), 35 PC3/A3 (io), 36 PC4/A4 (io), 37 PC5/A5 (io), 38 PC6/A6 (io), 39 PC7/A7 (io), 41 PB0/A8 (io), 42 PB1/A9 (io), 43 PB2/A10 (io), 44 PB3/A11 (io), 45 PB4/A12 (io), 46 PB5/A13 (io), 47 PB6/A14 (io), 48 PB7/A15 (io), 50 PA0/A16 (io), 51 PA1/A17 (io), 52 PA2/A18 (io), 53 PA3/A19 (io), 54 P50/TXD2 (io), 55 P51/RXD2 (io), 56 P52/SCK2 (io), 57 MD0 (in), 58 MD1 (in), 59 P53 (io), 60 ~{WDTOVF} (out), 61 MD2 (in), 62 ~{RES} (in), 63 NMI (in), 64 ~{STBY} (in), 66 XTAL (in), 67 EXTAL (in), 69 PF7/F (io), 70 PF6/~{AS} (io), 71 PF5/~{RD} (io), 72 PF4/~{HWR} (io), 73 PF3/~{LWR}/~{IRQ3} (io), 74 PF2/~{WAIT}/~{BREQO}/~{IRQ2} (io), 75 PF1/~{BACK}/~{IRQ1} (io), 76 PF0/~{IRQ0}/~{BREQ} (io), 78 VREF (in), 79 P40/AN0 (io), 80 P41/AN1 (io), 81 P42/AN2 (io), 82 P43/AN3 (io), 85 P20 (io), 86 P21 (io), 87 P22/TMRI0 (io), 88 P23/TMCI0 (io), 89 P24/TMRI1 (io), 90 P25/TMCI1 (io), 91 P26/TMO0 (io), 92 P27/TMO1 (io), 93 PG0/~{ADTRG}/~{IRQ6} (io), 94 PG1/CS3/~{IRQ7} (io), 95 PG2/CS2 (io), 96 PG3/CS1 (io), 97 PG4/CS0 (io), 99 P10/TIOCA0/A20 (io), 100 P11/TIOCB0/A21 (io)
part B pins: 7 VSS (power), 18 VSS (power), 31 VSS (power), 40 VCC (power), 49 VSS (power), 65 VCC (power), 68 VSS (power), 77 AVCC (power), 83 AVSS (power), 84 VSS (power), 98 VCC (power)

## HD6432242XXXFA
designator U?
Mask ROM H8S/2200 Series, 2245 Group MCU, 32K ROM, 8K RAM, FP-100B Pkg; Published: 28-Aug-2009; DatasheetVersion: Rev.3.00, Mar-2007; PackageVersion: Sep-2009; PackageReference: PRQP0100KA-A; Publisher: Altium Limited; PackageDescription: 100-Pin Plastic Quad Flat Pack, 14 x 14 x 2.7 mm Body, 0.5 mm Pitch; Code_JEITA: P-QFP100-14x14-0.50; ComponentLink1Description: Manufacturer Link; ComponentLink1URL: http://sg.renesas.com/fmwk.jsp?cnt=h8s_family_landing.jsp&fp=/products/mpumcu/h8s_family/; ComponentLink2Description: Datasheet; ComponentLink2URL: http://documentation.renesas.com/eng/products/mpumcu/rej09b0355_2245hm.pdf; ComponentLink3Description: Packaging Specification; ComponentLink3URL: http://sg.renesas.com/media/products/common_info/package/pdf/ic/code/prqp0100ka_a.pdf
footprint PRQP0100KA-A_N (Shrink QFP, 100-Leads, Body 14x14mm, Pitch 0.5mm, IPC Medium Density)
footprint PRQP0100KA-A_L (Shrink QFP, 100-Leads, Body 14x14mm, Pitch 0.5mm, IPC High Density)
footprint PRQP0100KA-A_M (Shrink QFP, 100-Leads, Body 14x14mm, Pitch 0.5mm, IPC Low Density)
part A pins: 1 P12/TIOCC0/TCLKA/A22 (io), 2 P13/TIOCD0/TCLKB/A23 (io), 3 P14/TIOCA1 (io), 4 P15/TIOCB1/TCLKC (io), 5 P16/TIOCA2 (io), 6 P17/TIOCB2/TCLKD (io), 8 P30/TXD0 (io), 9 P31/TXD1 (io), 10 P32/RXD0 (io), 11 P33/RXD1 (io), 12 P34/SCK0/~{IRQ4} (io), 13 P35/SCK1/~{IRQ5} (io), 14 PE0/D0 (io), 15 PE1/D1 (io), 16 PE2/D2 (io), 17 PE3/D3 (io), 19 PE4/D4 (io), 20 PE5/D5 (io), 21 PE6/D6 (io), 22 PE7/D7 (io), 23 PD0/D8 (io), 24 PD1/D9 (io), 25 PD2/D10 (io), 26 PD3/D11 (io), 27 PD4/D12 (io), 28 PD5/D13 (io), 29 PD6/D14 (io), 30 PD7/D15 (io), 32 PC0/A0 (io), 33 PC1/A1 (io), 34 PC2/A2 (io), 35 PC3/A3 (io), 36 PC4/A4 (io), 37 PC5/A5 (io), 38 PC6/A6 (io), 39 PC7/A7 (io), 41 PB0/A8 (io), 42 PB1/A9 (io), 43 PB2/A10 (io), 44 PB3/A11 (io), 45 PB4/A12 (io), 46 PB5/A13 (io), 47 PB6/A14 (io), 48 PB7/A15 (io), 50 PA0/A16 (io), 51 PA1/A17 (io), 52 PA2/A18 (io), 53 PA3/A19 (io), 54 P50/TXD2 (io), 55 P51/RXD2 (io), 56 P52/SCK2 (io), 57 MD0 (in), 58 MD1 (in), 59 P53 (io), 60 ~{WDTOVF} (out), 61 MD2 (in), 62 ~{RES} (in), 63 NMI (in), 64 ~{STBY} (in), 66 XTAL (in), 67 EXTAL (in), 69 PF7/F (io), 70 PF6/~{AS} (io), 71 PF5/~{RD} (io), 72 PF4/~{HWR} (io), 73 PF3/~{LWR}/~{IRQ3} (io), 74 PF2/~{WAIT}/~{BREQO}/~{IRQ2} (io), 75 PF1/~{BACK}/~{IRQ1} (io), 76 PF0/~{IRQ0}/~{BREQ} (io), 78 VREF (in), 79 P40/AN0 (io), 80 P41/AN1 (io), 81 P42/AN2 (io), 82 P43/AN3 (io), 85 P20 (io), 86 P21 (io), 87 P22/TMRI0 (io), 88 P23/TMCI0 (io), 89 P24/TMRI1 (io), 90 P25/TMCI1 (io), 91 P26/TMO0 (io), 92 P27/TMO1 (io), 93 PG0/~{ADTRG}/~{IRQ6} (io), 94 PG1/CS3/~{IRQ7} (io), 95 PG2/CS2 (io), 96 PG3/CS1 (io), 97 PG4/CS0 (io), 99 P10/TIOCA0/A20 (io), 100 P11/TIOCB0/A21 (io)
part B pins: 7 VSS (power), 18 VSS (power), 31 VSS (power), 40 VCC (power), 49 VSS (power), 65 VCC (power), 68 VSS (power), 77 AVCC (power), 83 AVSS (power), 84 VSS (power), 98 VCC (power)

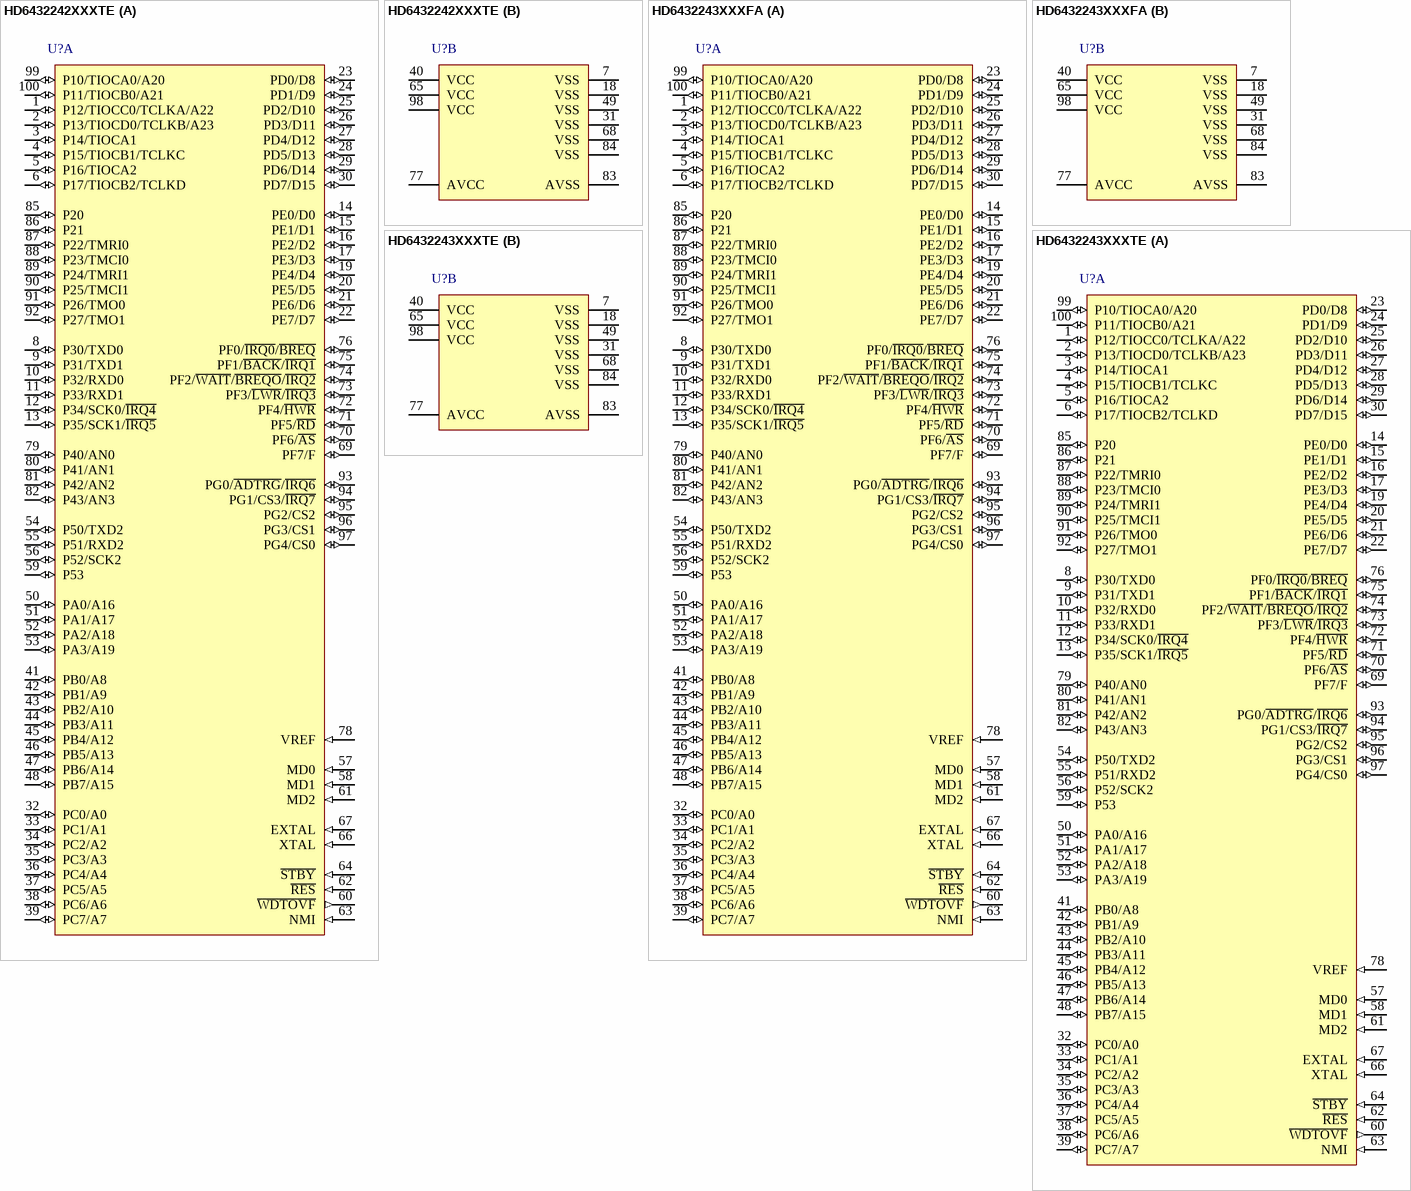
[diagram p151: symbols HD6432242XXXTE to HD6432243XXXTE]

## HD6432242XXXTE
designator U?
Mask ROM H8S/2200 Series, 2245 Group MCU, 32K ROM, 8K RAM, TFP-100B Pkg; Published: 28-Aug-2009; DatasheetVersion: Rev.3.00, Mar-2007; PackageVersion: Sep-2005; PackageReference: PTQP0100KA-A; Publisher: Altium Limited; PackageDescription: 100-Pin Plastic Thin Quad Flat Pack, 14 x 14 x 1.0 mm Body, 0.5 mm Pitch; Code_JEITA: P-TQFP100-14x14-0.50; ComponentLink1Description: Manufacturer Link; ComponentLink1URL: http://sg.renesas.com/fmwk.jsp?cnt=h8s_family_landing.jsp&fp=/products/mpumcu/h8s_family/; ComponentLink2Description: Datasheet; ComponentLink2URL: http://documentation.renesas.com/eng/products/mpumcu/rej09b0355_2245hm.pdf; ComponentLink3Description: Packaging Specification; ComponentLink3URL: http://sg.renesas.com/media/products/common_info/package/pdf/ic/code/ptqp0100ka_a.pdf
footprint PTQP0100KA-A_N (Thin QFP, 100-Leads, Body 14x14mm, Pitch 0.5mm, IPC Medium Density)
footprint PTQP0100KA-A_L (Thin QFP, 100-Leads, Body 14x14mm, Pitch 0.5mm, IPC High Density)
footprint PTQP0100KA-A_M (Thin QFP, 100-Leads, Body 14x14mm, Pitch 0.5mm, IPC Low Density)
part A pins: 1 P12/TIOCC0/TCLKA/A22 (io), 2 P13/TIOCD0/TCLKB/A23 (io), 3 P14/TIOCA1 (io), 4 P15/TIOCB1/TCLKC (io), 5 P16/TIOCA2 (io), 6 P17/TIOCB2/TCLKD (io), 8 P30/TXD0 (io), 9 P31/TXD1 (io), 10 P32/RXD0 (io), 11 P33/RXD1 (io), 12 P34/SCK0/~{IRQ4} (io), 13 P35/SCK1/~{IRQ5} (io), 14 PE0/D0 (io), 15 PE1/D1 (io), 16 PE2/D2 (io), 17 PE3/D3 (io), 19 PE4/D4 (io), 20 PE5/D5 (io), 21 PE6/D6 (io), 22 PE7/D7 (io), 23 PD0/D8 (io), 24 PD1/D9 (io), 25 PD2/D10 (io), 26 PD3/D11 (io), 27 PD4/D12 (io), 28 PD5/D13 (io), 29 PD6/D14 (io), 30 PD7/D15 (io), 32 PC0/A0 (io), 33 PC1/A1 (io), 34 PC2/A2 (io), 35 PC3/A3 (io), 36 PC4/A4 (io), 37 PC5/A5 (io), 38 PC6/A6 (io), 39 PC7/A7 (io), 41 PB0/A8 (io), 42 PB1/A9 (io), 43 PB2/A10 (io), 44 PB3/A11 (io), 45 PB4/A12 (io), 46 PB5/A13 (io), 47 PB6/A14 (io), 48 PB7/A15 (io), 50 PA0/A16 (io), 51 PA1/A17 (io), 52 PA2/A18 (io), 53 PA3/A19 (io), 54 P50/TXD2 (io), 55 P51/RXD2 (io), 56 P52/SCK2 (io), 57 MD0 (in), 58 MD1 (in), 59 P53 (io), 60 ~{WDTOVF} (out), 61 MD2 (in), 62 ~{RES} (in), 63 NMI (in), 64 ~{STBY} (in), 66 XTAL (in), 67 EXTAL (in), 69 PF7/F (io), 70 PF6/~{AS} (io), 71 PF5/~{RD} (io), 72 PF4/~{HWR} (io), 73 PF3/~{LWR}/~{IRQ3} (io), 74 PF2/~{WAIT}/~{BREQO}/~{IRQ2} (io), 75 PF1/~{BACK}/~{IRQ1} (io), 76 PF0/~{IRQ0}/~{BREQ} (io), 78 VREF (in), 79 P40/AN0 (io), 80 P41/AN1 (io), 81 P42/AN2 (io), 82 P43/AN3 (io), 85 P20 (io), 86 P21 (io), 87 P22/TMRI0 (io), 88 P23/TMCI0 (io), 89 P24/TMRI1 (io), 90 P25/TMCI1 (io), 91 P26/TMO0 (io), 92 P27/TMO1 (io), 93 PG0/~{ADTRG}/~{IRQ6} (io), 94 PG1/CS3/~{IRQ7} (io), 95 PG2/CS2 (io), 96 PG3/CS1 (io), 97 PG4/CS0 (io), 99 P10/TIOCA0/A20 (io), 100 P11/TIOCB0/A21 (io)
part B pins: 7 VSS (power), 18 VSS (power), 31 VSS (power), 40 VCC (power), 49 VSS (power), 65 VCC (power), 68 VSS (power), 77 AVCC (power), 83 AVSS (power), 84 VSS (power), 98 VCC (power)

## HD6432243XXXFA
designator U?
Mask ROM H8S/2200 Series, 2245 Group MCU, 64K ROM, 4K RAM, FP-100B Pkg; Published: 28-Aug-2009; DatasheetVersion: Rev.3.00, Mar-2007; PackageVersion: Sep-2009; PackageReference: PRQP0100KA-A; Publisher: Altium Limited; PackageDescription: 100-Pin Plastic Quad Flat Pack, 14 x 14 x 2.7 mm Body, 0.5 mm Pitch; Code_JEITA: P-QFP100-14x14-0.50; ComponentLink1Description: Manufacturer Link; ComponentLink1URL: http://sg.renesas.com/fmwk.jsp?cnt=h8s_family_landing.jsp&fp=/products/mpumcu/h8s_family/; ComponentLink2Description: Datasheet; ComponentLink2URL: http://documentation.renesas.com/eng/products/mpumcu/rej09b0355_2245hm.pdf; ComponentLink3Description: Packaging Specification; ComponentLink3URL: http://sg.renesas.com/media/products/common_info/package/pdf/ic/code/prqp0100ka_a.pdf
footprint PRQP0100KA-A_N (Shrink QFP, 100-Leads, Body 14x14mm, Pitch 0.5mm, IPC Medium Density)
footprint PRQP0100KA-A_L (Shrink QFP, 100-Leads, Body 14x14mm, Pitch 0.5mm, IPC High Density)
footprint PRQP0100KA-A_M (Shrink QFP, 100-Leads, Body 14x14mm, Pitch 0.5mm, IPC Low Density)
part A pins: 1 P12/TIOCC0/TCLKA/A22 (io), 2 P13/TIOCD0/TCLKB/A23 (io), 3 P14/TIOCA1 (io), 4 P15/TIOCB1/TCLKC (io), 5 P16/TIOCA2 (io), 6 P17/TIOCB2/TCLKD (io), 8 P30/TXD0 (io), 9 P31/TXD1 (io), 10 P32/RXD0 (io), 11 P33/RXD1 (io), 12 P34/SCK0/~{IRQ4} (io), 13 P35/SCK1/~{IRQ5} (io), 14 PE0/D0 (io), 15 PE1/D1 (io), 16 PE2/D2 (io), 17 PE3/D3 (io), 19 PE4/D4 (io), 20 PE5/D5 (io), 21 PE6/D6 (io), 22 PE7/D7 (io), 23 PD0/D8 (io), 24 PD1/D9 (io), 25 PD2/D10 (io), 26 PD3/D11 (io), 27 PD4/D12 (io), 28 PD5/D13 (io), 29 PD6/D14 (io), 30 PD7/D15 (io), 32 PC0/A0 (io), 33 PC1/A1 (io), 34 PC2/A2 (io), 35 PC3/A3 (io), 36 PC4/A4 (io), 37 PC5/A5 (io), 38 PC6/A6 (io), 39 PC7/A7 (io), 41 PB0/A8 (io), 42 PB1/A9 (io), 43 PB2/A10 (io), 44 PB3/A11 (io), 45 PB4/A12 (io), 46 PB5/A13 (io), 47 PB6/A14 (io), 48 PB7/A15 (io), 50 PA0/A16 (io), 51 PA1/A17 (io), 52 PA2/A18 (io), 53 PA3/A19 (io), 54 P50/TXD2 (io), 55 P51/RXD2 (io), 56 P52/SCK2 (io), 57 MD0 (in), 58 MD1 (in), 59 P53 (io), 60 ~{WDTOVF} (out), 61 MD2 (in), 62 ~{RES} (in), 63 NMI (in), 64 ~{STBY} (in), 66 XTAL (in), 67 EXTAL (in), 69 PF7/F (io), 70 PF6/~{AS} (io), 71 PF5/~{RD} (io), 72 PF4/~{HWR} (io), 73 PF3/~{LWR}/~{IRQ3} (io), 74 PF2/~{WAIT}/~{BREQO}/~{IRQ2} (io), 75 PF1/~{BACK}/~{IRQ1} (io), 76 PF0/~{IRQ0}/~{BREQ} (io), 78 VREF (in), 79 P40/AN0 (io), 80 P41/AN1 (io), 81 P42/AN2 (io), 82 P43/AN3 (io), 85 P20 (io), 86 P21 (io), 87 P22/TMRI0 (io), 88 P23/TMCI0 (io), 89 P24/TMRI1 (io), 90 P25/TMCI1 (io), 91 P26/TMO0 (io), 92 P27/TMO1 (io), 93 PG0/~{ADTRG}/~{IRQ6} (io), 94 PG1/CS3/~{IRQ7} (io), 95 PG2/CS2 (io), 96 PG3/CS1 (io), 97 PG4/CS0 (io), 99 P10/TIOCA0/A20 (io), 100 P11/TIOCB0/A21 (io)
part B pins: 7 VSS (power), 18 VSS (power), 31 VSS (power), 40 VCC (power), 49 VSS (power), 65 VCC (power), 68 VSS (power), 77 AVCC (power), 83 AVSS (power), 84 VSS (power), 98 VCC (power)

## HD6432243XXXTE
designator U?
Mask ROM H8S/2200 Series, 2245 Group MCU, 64K ROM, 4K RAM, TFP-100B Pkg; Published: 28-Aug-2009; DatasheetVersion: Rev.3.00, Mar-2007; PackageVersion: Sep-2005; PackageReference: PTQP0100KA-A; Publisher: Altium Limited; PackageDescription: 100-Pin Plastic Thin Quad Flat Pack, 14 x 14 x 1.0 mm Body, 0.5 mm Pitch; Code_JEITA: P-TQFP100-14x14-0.50; ComponentLink1Description: Manufacturer Link; ComponentLink1URL: http://sg.renesas.com/fmwk.jsp?cnt=h8s_family_landing.jsp&fp=/products/mpumcu/h8s_family/; ComponentLink2Description: Datasheet; ComponentLink2URL: http://documentation.renesas.com/eng/products/mpumcu/rej09b0355_2245hm.pdf; ComponentLink3Description: Packaging Specification; ComponentLink3URL: http://sg.renesas.com/media/products/common_info/package/pdf/ic/code/ptqp0100ka_a.pdf
footprint PTQP0100KA-A_N (Thin QFP, 100-Leads, Body 14x14mm, Pitch 0.5mm, IPC Medium Density)
footprint PTQP0100KA-A_L (Thin QFP, 100-Leads, Body 14x14mm, Pitch 0.5mm, IPC High Density)
footprint PTQP0100KA-A_M (Thin QFP, 100-Leads, Body 14x14mm, Pitch 0.5mm, IPC Low Density)
part A pins: 1 P12/TIOCC0/TCLKA/A22 (io), 2 P13/TIOCD0/TCLKB/A23 (io), 3 P14/TIOCA1 (io), 4 P15/TIOCB1/TCLKC (io), 5 P16/TIOCA2 (io), 6 P17/TIOCB2/TCLKD (io), 8 P30/TXD0 (io), 9 P31/TXD1 (io), 10 P32/RXD0 (io), 11 P33/RXD1 (io), 12 P34/SCK0/~{IRQ4} (io), 13 P35/SCK1/~{IRQ5} (io), 14 PE0/D0 (io), 15 PE1/D1 (io), 16 PE2/D2 (io), 17 PE3/D3 (io), 19 PE4/D4 (io), 20 PE5/D5 (io), 21 PE6/D6 (io), 22 PE7/D7 (io), 23 PD0/D8 (io), 24 PD1/D9 (io), 25 PD2/D10 (io), 26 PD3/D11 (io), 27 PD4/D12 (io), 28 PD5/D13 (io), 29 PD6/D14 (io), 30 PD7/D15 (io), 32 PC0/A0 (io), 33 PC1/A1 (io), 34 PC2/A2 (io), 35 PC3/A3 (io), 36 PC4/A4 (io), 37 PC5/A5 (io), 38 PC6/A6 (io), 39 PC7/A7 (io), 41 PB0/A8 (io), 42 PB1/A9 (io), 43 PB2/A10 (io), 44 PB3/A11 (io), 45 PB4/A12 (io), 46 PB5/A13 (io), 47 PB6/A14 (io), 48 PB7/A15 (io), 50 PA0/A16 (io), 51 PA1/A17 (io), 52 PA2/A18 (io), 53 PA3/A19 (io), 54 P50/TXD2 (io), 55 P51/RXD2 (io), 56 P52/SCK2 (io), 57 MD0 (in), 58 MD1 (in), 59 P53 (io), 60 ~{WDTOVF} (out), 61 MD2 (in), 62 ~{RES} (in), 63 NMI (in), 64 ~{STBY} (in), 66 XTAL (in), 67 EXTAL (in), 69 PF7/F (io), 70 PF6/~{AS} (io), 71 PF5/~{RD} (io), 72 PF4/~{HWR} (io), 73 PF3/~{LWR}/~{IRQ3} (io), 74 PF2/~{WAIT}/~{BREQO}/~{IRQ2} (io), 75 PF1/~{BACK}/~{IRQ1} (io), 76 PF0/~{IRQ0}/~{BREQ} (io), 78 VREF (in), 79 P40/AN0 (io), 80 P41/AN1 (io), 81 P42/AN2 (io), 82 P43/AN3 (io), 85 P20 (io), 86 P21 (io), 87 P22/TMRI0 (io), 88 P23/TMCI0 (io), 89 P24/TMRI1 (io), 90 P25/TMCI1 (io), 91 P26/TMO0 (io), 92 P27/TMO1 (io), 93 PG0/~{ADTRG}/~{IRQ6} (io), 94 PG1/CS3/~{IRQ7} (io), 95 PG2/CS2 (io), 96 PG3/CS1 (io), 97 PG4/CS0 (io), 99 P10/TIOCA0/A20 (io), 100 P11/TIOCB0/A21 (io)
part B pins: 7 VSS (power), 18 VSS (power), 31 VSS (power), 40 VCC (power), 49 VSS (power), 65 VCC (power), 68 VSS (power), 77 AVCC (power), 83 AVSS (power), 84 VSS (power), 98 VCC (power)

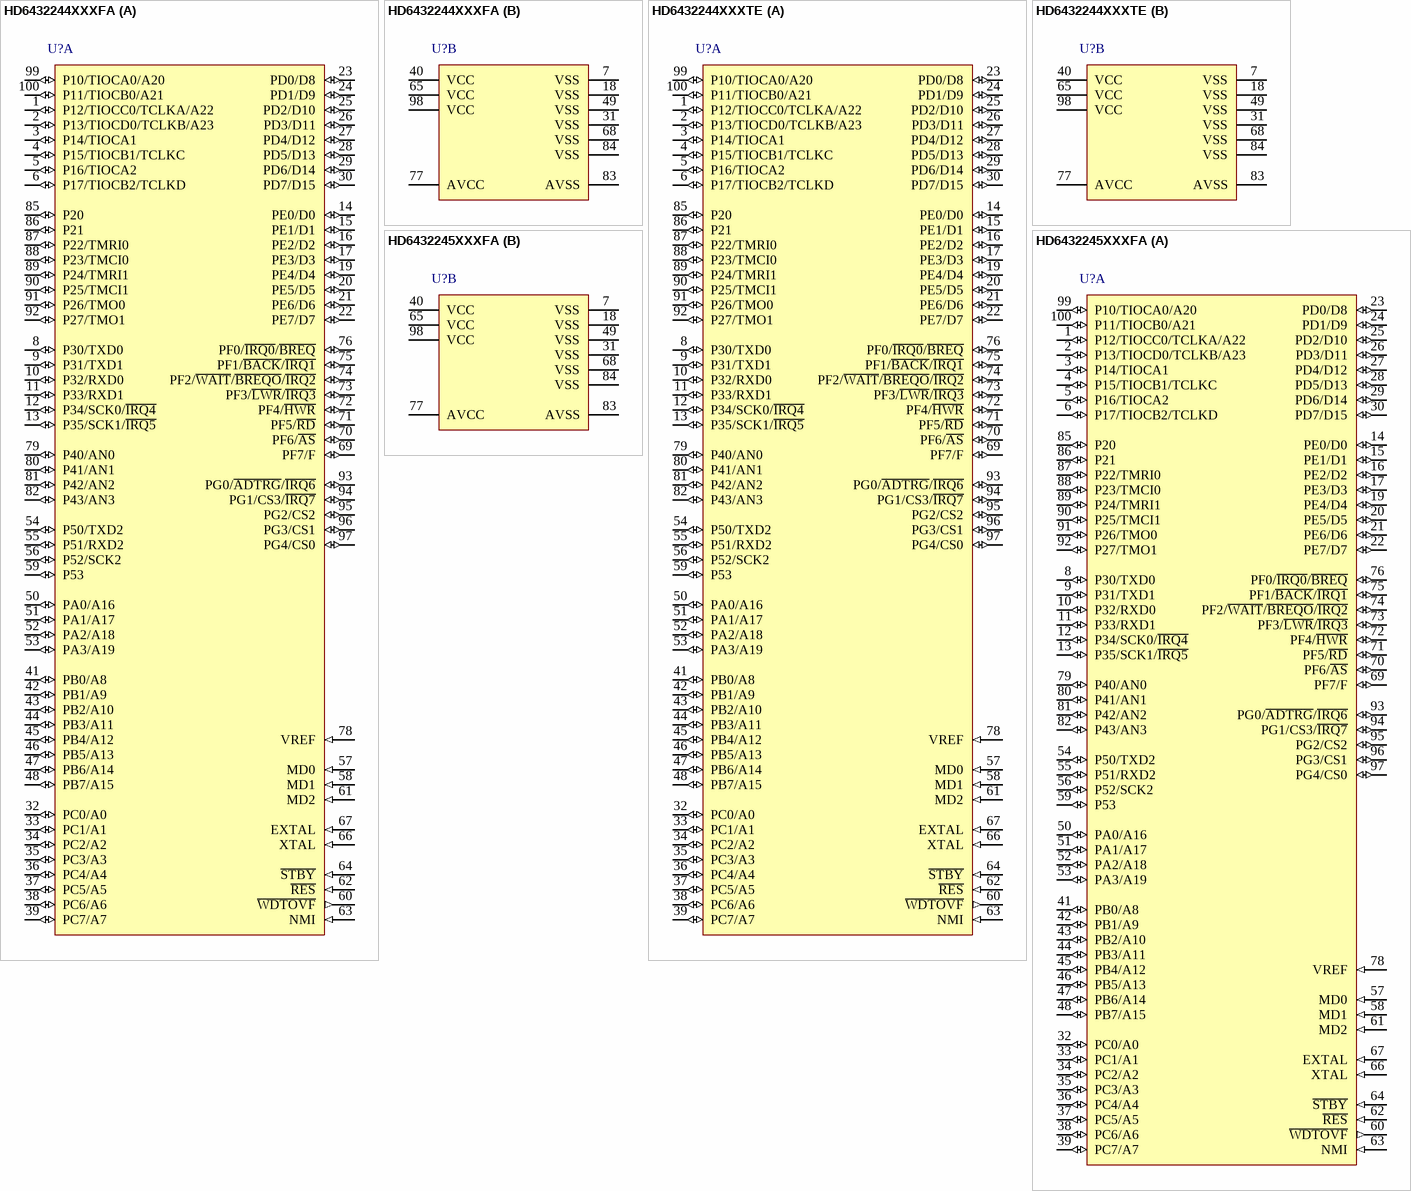
[diagram p152: symbols HD6432244XXXFA to HD6432245XXXFA]

## HD6432244XXXFA
designator U?
Mask ROM H8S/2200 Series, 2245 Group MCU, 64K ROM, 8K RAM, FP-100B Pkg; Published: 28-Aug-2009; DatasheetVersion: Rev.3.00, Mar-2007; PackageVersion: Sep-2009; PackageReference: PRQP0100KA-A; Publisher: Altium Limited; PackageDescription: 100-Pin Plastic Quad Flat Pack, 14 x 14 x 2.7 mm Body, 0.5 mm Pitch; Code_JEITA: P-QFP100-14x14-0.50; ComponentLink1Description: Manufacturer Link; ComponentLink1URL: http://sg.renesas.com/fmwk.jsp?cnt=h8s_family_landing.jsp&fp=/products/mpumcu/h8s_family/; ComponentLink2Description: Datasheet; ComponentLink2URL: http://documentation.renesas.com/eng/products/mpumcu/rej09b0355_2245hm.pdf; ComponentLink3Description: Packaging Specification; ComponentLink3URL: http://sg.renesas.com/media/products/common_info/package/pdf/ic/code/prqp0100ka_a.pdf
footprint PRQP0100KA-A_N (Shrink QFP, 100-Leads, Body 14x14mm, Pitch 0.5mm, IPC Medium Density)
footprint PRQP0100KA-A_L (Shrink QFP, 100-Leads, Body 14x14mm, Pitch 0.5mm, IPC High Density)
footprint PRQP0100KA-A_M (Shrink QFP, 100-Leads, Body 14x14mm, Pitch 0.5mm, IPC Low Density)
part A pins: 1 P12/TIOCC0/TCLKA/A22 (io), 2 P13/TIOCD0/TCLKB/A23 (io), 3 P14/TIOCA1 (io), 4 P15/TIOCB1/TCLKC (io), 5 P16/TIOCA2 (io), 6 P17/TIOCB2/TCLKD (io), 8 P30/TXD0 (io), 9 P31/TXD1 (io), 10 P32/RXD0 (io), 11 P33/RXD1 (io), 12 P34/SCK0/~{IRQ4} (io), 13 P35/SCK1/~{IRQ5} (io), 14 PE0/D0 (io), 15 PE1/D1 (io), 16 PE2/D2 (io), 17 PE3/D3 (io), 19 PE4/D4 (io), 20 PE5/D5 (io), 21 PE6/D6 (io), 22 PE7/D7 (io), 23 PD0/D8 (io), 24 PD1/D9 (io), 25 PD2/D10 (io), 26 PD3/D11 (io), 27 PD4/D12 (io), 28 PD5/D13 (io), 29 PD6/D14 (io), 30 PD7/D15 (io), 32 PC0/A0 (io), 33 PC1/A1 (io), 34 PC2/A2 (io), 35 PC3/A3 (io), 36 PC4/A4 (io), 37 PC5/A5 (io), 38 PC6/A6 (io), 39 PC7/A7 (io), 41 PB0/A8 (io), 42 PB1/A9 (io), 43 PB2/A10 (io), 44 PB3/A11 (io), 45 PB4/A12 (io), 46 PB5/A13 (io), 47 PB6/A14 (io), 48 PB7/A15 (io), 50 PA0/A16 (io), 51 PA1/A17 (io), 52 PA2/A18 (io), 53 PA3/A19 (io), 54 P50/TXD2 (io), 55 P51/RXD2 (io), 56 P52/SCK2 (io), 57 MD0 (in), 58 MD1 (in), 59 P53 (io), 60 ~{WDTOVF} (out), 61 MD2 (in), 62 ~{RES} (in), 63 NMI (in), 64 ~{STBY} (in), 66 XTAL (in), 67 EXTAL (in), 69 PF7/F (io), 70 PF6/~{AS} (io), 71 PF5/~{RD} (io), 72 PF4/~{HWR} (io), 73 PF3/~{LWR}/~{IRQ3} (io), 74 PF2/~{WAIT}/~{BREQO}/~{IRQ2} (io), 75 PF1/~{BACK}/~{IRQ1} (io), 76 PF0/~{IRQ0}/~{BREQ} (io), 78 VREF (in), 79 P40/AN0 (io), 80 P41/AN1 (io), 81 P42/AN2 (io), 82 P43/AN3 (io), 85 P20 (io), 86 P21 (io), 87 P22/TMRI0 (io), 88 P23/TMCI0 (io), 89 P24/TMRI1 (io), 90 P25/TMCI1 (io), 91 P26/TMO0 (io), 92 P27/TMO1 (io), 93 PG0/~{ADTRG}/~{IRQ6} (io), 94 PG1/CS3/~{IRQ7} (io), 95 PG2/CS2 (io), 96 PG3/CS1 (io), 97 PG4/CS0 (io), 99 P10/TIOCA0/A20 (io), 100 P11/TIOCB0/A21 (io)
part B pins: 7 VSS (power), 18 VSS (power), 31 VSS (power), 40 VCC (power), 49 VSS (power), 65 VCC (power), 68 VSS (power), 77 AVCC (power), 83 AVSS (power), 84 VSS (power), 98 VCC (power)

## HD6432244XXXTE
designator U?
Mask ROM H8S/2200 Series, 2245 Group MCU, 64K ROM, 8K RAM, TFP-100B Pkg; Published: 28-Aug-2009; DatasheetVersion: Rev.3.00, Mar-2007; PackageVersion: Sep-2005; PackageReference: PTQP0100KA-A; Publisher: Altium Limited; PackageDescription: 100-Pin Plastic Thin Quad Flat Pack, 14 x 14 x 1.0 mm Body, 0.5 mm Pitch; Code_JEITA: P-TQFP100-14x14-0.50; ComponentLink1Description: Manufacturer Link; ComponentLink1URL: http://sg.renesas.com/fmwk.jsp?cnt=h8s_family_landing.jsp&fp=/products/mpumcu/h8s_family/; ComponentLink2Description: Datasheet; ComponentLink2URL: http://documentation.renesas.com/eng/products/mpumcu/rej09b0355_2245hm.pdf; ComponentLink3Description: Packaging Specification; ComponentLink3URL: http://sg.renesas.com/media/products/common_info/package/pdf/ic/code/ptqp0100ka_a.pdf
footprint PTQP0100KA-A_N (Thin QFP, 100-Leads, Body 14x14mm, Pitch 0.5mm, IPC Medium Density)
footprint PTQP0100KA-A_L (Thin QFP, 100-Leads, Body 14x14mm, Pitch 0.5mm, IPC High Density)
footprint PTQP0100KA-A_M (Thin QFP, 100-Leads, Body 14x14mm, Pitch 0.5mm, IPC Low Density)
part A pins: 1 P12/TIOCC0/TCLKA/A22 (io), 2 P13/TIOCD0/TCLKB/A23 (io), 3 P14/TIOCA1 (io), 4 P15/TIOCB1/TCLKC (io), 5 P16/TIOCA2 (io), 6 P17/TIOCB2/TCLKD (io), 8 P30/TXD0 (io), 9 P31/TXD1 (io), 10 P32/RXD0 (io), 11 P33/RXD1 (io), 12 P34/SCK0/~{IRQ4} (io), 13 P35/SCK1/~{IRQ5} (io), 14 PE0/D0 (io), 15 PE1/D1 (io), 16 PE2/D2 (io), 17 PE3/D3 (io), 19 PE4/D4 (io), 20 PE5/D5 (io), 21 PE6/D6 (io), 22 PE7/D7 (io), 23 PD0/D8 (io), 24 PD1/D9 (io), 25 PD2/D10 (io), 26 PD3/D11 (io), 27 PD4/D12 (io), 28 PD5/D13 (io), 29 PD6/D14 (io), 30 PD7/D15 (io), 32 PC0/A0 (io), 33 PC1/A1 (io), 34 PC2/A2 (io), 35 PC3/A3 (io), 36 PC4/A4 (io), 37 PC5/A5 (io), 38 PC6/A6 (io), 39 PC7/A7 (io), 41 PB0/A8 (io), 42 PB1/A9 (io), 43 PB2/A10 (io), 44 PB3/A11 (io), 45 PB4/A12 (io), 46 PB5/A13 (io), 47 PB6/A14 (io), 48 PB7/A15 (io), 50 PA0/A16 (io), 51 PA1/A17 (io), 52 PA2/A18 (io), 53 PA3/A19 (io), 54 P50/TXD2 (io), 55 P51/RXD2 (io), 56 P52/SCK2 (io), 57 MD0 (in), 58 MD1 (in), 59 P53 (io), 60 ~{WDTOVF} (out), 61 MD2 (in), 62 ~{RES} (in), 63 NMI (in), 64 ~{STBY} (in), 66 XTAL (in), 67 EXTAL (in), 69 PF7/F (io), 70 PF6/~{AS} (io), 71 PF5/~{RD} (io), 72 PF4/~{HWR} (io), 73 PF3/~{LWR}/~{IRQ3} (io), 74 PF2/~{WAIT}/~{BREQO}/~{IRQ2} (io), 75 PF1/~{BACK}/~{IRQ1} (io), 76 PF0/~{IRQ0}/~{BREQ} (io), 78 VREF (in), 79 P40/AN0 (io), 80 P41/AN1 (io), 81 P42/AN2 (io), 82 P43/AN3 (io), 85 P20 (io), 86 P21 (io), 87 P22/TMRI0 (io), 88 P23/TMCI0 (io), 89 P24/TMRI1 (io), 90 P25/TMCI1 (io), 91 P26/TMO0 (io), 92 P27/TMO1 (io), 93 PG0/~{ADTRG}/~{IRQ6} (io), 94 PG1/CS3/~{IRQ7} (io), 95 PG2/CS2 (io), 96 PG3/CS1 (io), 97 PG4/CS0 (io), 99 P10/TIOCA0/A20 (io), 100 P11/TIOCB0/A21 (io)
part B pins: 7 VSS (power), 18 VSS (power), 31 VSS (power), 40 VCC (power), 49 VSS (power), 65 VCC (power), 68 VSS (power), 77 AVCC (power), 83 AVSS (power), 84 VSS (power), 98 VCC (power)

## HD6432245XXXFA
designator U?
Mask ROM H8S/2200 Series, 2245 Group MCU, 128K ROM, 4K RAM, FP-100B Pkg; Published: 28-Aug-2009; DatasheetVersion: Rev.3.00, Mar-2007; PackageVersion: Sep-2009; PackageReference: PRQP0100KA-A; Publisher: Altium Limited; PackageDescription: 100-Pin Plastic Quad Flat Pack, 14 x 14 x 2.7 mm Body, 0.5 mm Pitch; Code_JEITA: P-QFP100-14x14-0.50; ComponentLink1Description: Manufacturer Link; ComponentLink1URL: http://sg.renesas.com/fmwk.jsp?cnt=h8s_family_landing.jsp&fp=/products/mpumcu/h8s_family/; ComponentLink2Description: Datasheet; ComponentLink2URL: http://documentation.renesas.com/eng/products/mpumcu/rej09b0355_2245hm.pdf; ComponentLink3Description: Packaging Specification; ComponentLink3URL: http://sg.renesas.com/media/products/common_info/package/pdf/ic/code/prqp0100ka_a.pdf
footprint PRQP0100KA-A_N (Shrink QFP, 100-Leads, Body 14x14mm, Pitch 0.5mm, IPC Medium Density)
footprint PRQP0100KA-A_L (Shrink QFP, 100-Leads, Body 14x14mm, Pitch 0.5mm, IPC High Density)
footprint PRQP0100KA-A_M (Shrink QFP, 100-Leads, Body 14x14mm, Pitch 0.5mm, IPC Low Density)
part A pins: 1 P12/TIOCC0/TCLKA/A22 (io), 2 P13/TIOCD0/TCLKB/A23 (io), 3 P14/TIOCA1 (io), 4 P15/TIOCB1/TCLKC (io), 5 P16/TIOCA2 (io), 6 P17/TIOCB2/TCLKD (io), 8 P30/TXD0 (io), 9 P31/TXD1 (io), 10 P32/RXD0 (io), 11 P33/RXD1 (io), 12 P34/SCK0/~{IRQ4} (io), 13 P35/SCK1/~{IRQ5} (io), 14 PE0/D0 (io), 15 PE1/D1 (io), 16 PE2/D2 (io), 17 PE3/D3 (io), 19 PE4/D4 (io), 20 PE5/D5 (io), 21 PE6/D6 (io), 22 PE7/D7 (io), 23 PD0/D8 (io), 24 PD1/D9 (io), 25 PD2/D10 (io), 26 PD3/D11 (io), 27 PD4/D12 (io), 28 PD5/D13 (io), 29 PD6/D14 (io), 30 PD7/D15 (io), 32 PC0/A0 (io), 33 PC1/A1 (io), 34 PC2/A2 (io), 35 PC3/A3 (io), 36 PC4/A4 (io), 37 PC5/A5 (io), 38 PC6/A6 (io), 39 PC7/A7 (io), 41 PB0/A8 (io), 42 PB1/A9 (io), 43 PB2/A10 (io), 44 PB3/A11 (io), 45 PB4/A12 (io), 46 PB5/A13 (io), 47 PB6/A14 (io), 48 PB7/A15 (io), 50 PA0/A16 (io), 51 PA1/A17 (io), 52 PA2/A18 (io), 53 PA3/A19 (io), 54 P50/TXD2 (io), 55 P51/RXD2 (io), 56 P52/SCK2 (io), 57 MD0 (in), 58 MD1 (in), 59 P53 (io), 60 ~{WDTOVF} (out), 61 MD2 (in), 62 ~{RES} (in), 63 NMI (in), 64 ~{STBY} (in), 66 XTAL (in), 67 EXTAL (in), 69 PF7/F (io), 70 PF6/~{AS} (io), 71 PF5/~{RD} (io), 72 PF4/~{HWR} (io), 73 PF3/~{LWR}/~{IRQ3} (io), 74 PF2/~{WAIT}/~{BREQO}/~{IRQ2} (io), 75 PF1/~{BACK}/~{IRQ1} (io), 76 PF0/~{IRQ0}/~{BREQ} (io), 78 VREF (in), 79 P40/AN0 (io), 80 P41/AN1 (io), 81 P42/AN2 (io), 82 P43/AN3 (io), 85 P20 (io), 86 P21 (io), 87 P22/TMRI0 (io), 88 P23/TMCI0 (io), 89 P24/TMRI1 (io), 90 P25/TMCI1 (io), 91 P26/TMO0 (io), 92 P27/TMO1 (io), 93 PG0/~{ADTRG}/~{IRQ6} (io), 94 PG1/CS3/~{IRQ7} (io), 95 PG2/CS2 (io), 96 PG3/CS1 (io), 97 PG4/CS0 (io), 99 P10/TIOCA0/A20 (io), 100 P11/TIOCB0/A21 (io)
part B pins: 7 VSS (power), 18 VSS (power), 31 VSS (power), 40 VCC (power), 49 VSS (power), 65 VCC (power), 68 VSS (power), 77 AVCC (power), 83 AVSS (power), 84 VSS (power), 98 VCC (power)

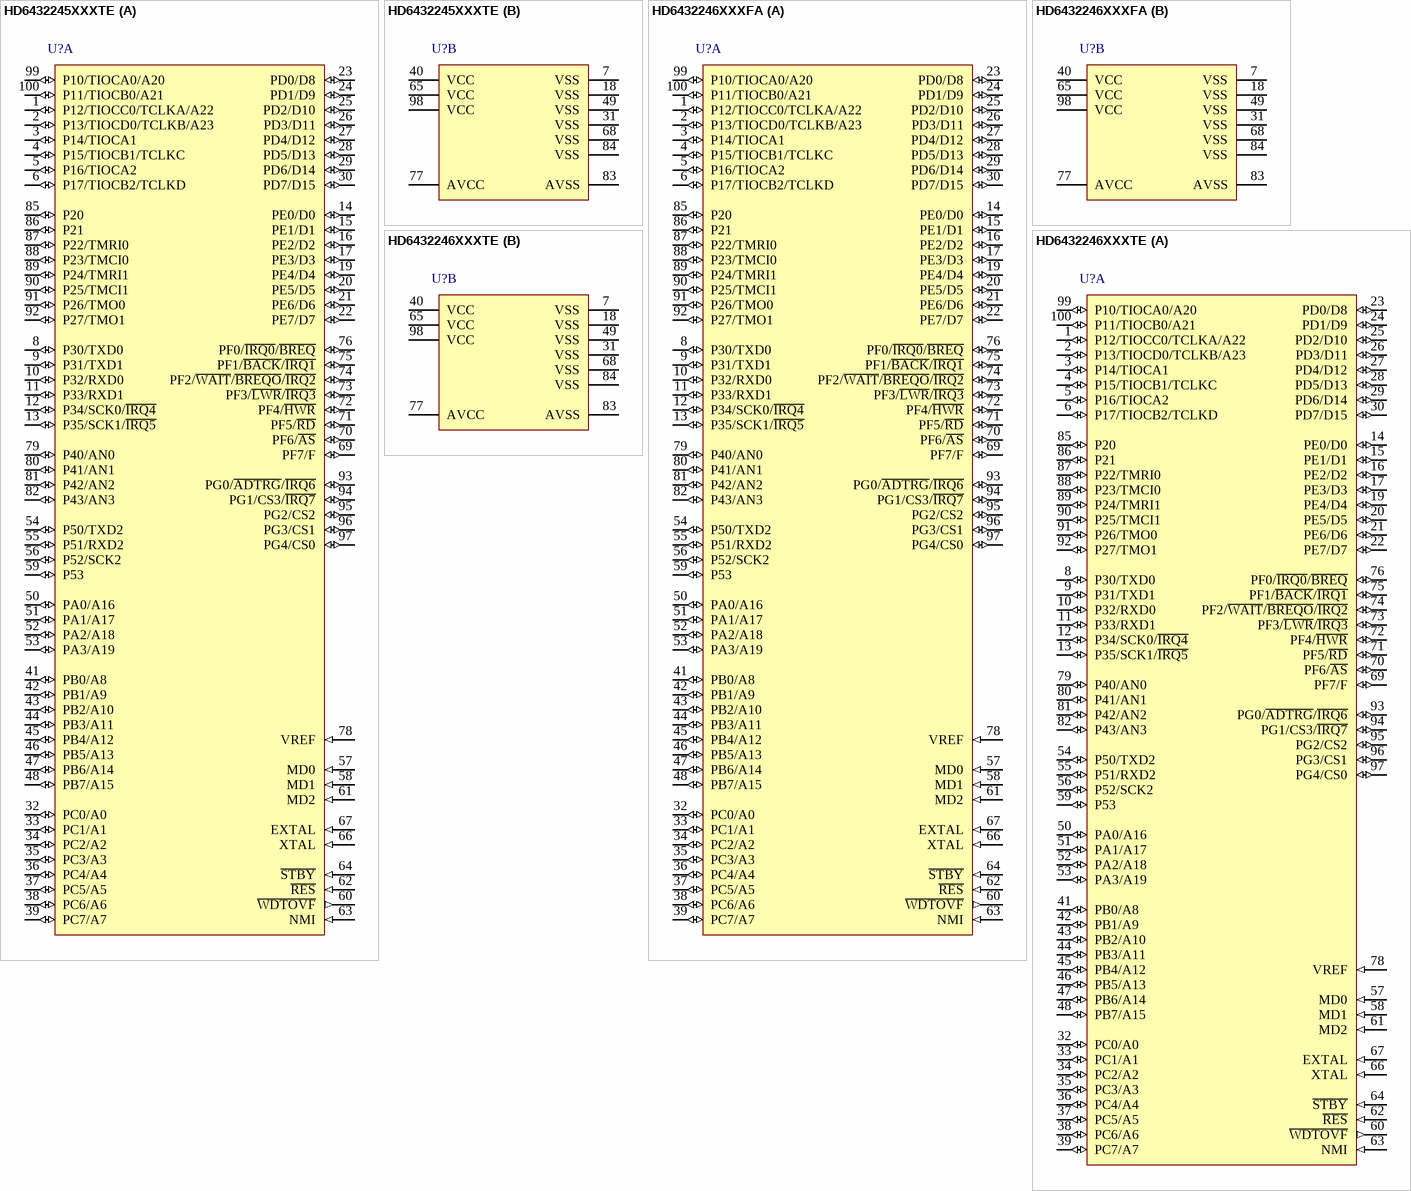
[diagram p153: symbols HD6432245XXXTE to HD6432246XXXTE]

## HD6432245XXXTE
designator U?
Mask ROM H8S/2200 Series, 2245 Group MCU, 128K ROM, 4K RAM, TFP-100B Pkg; Published: 28-Aug-2009; DatasheetVersion: Rev.3.00, Mar-2007; PackageVersion: Sep-2005; PackageReference: PTQP0100KA-A; Publisher: Altium Limited; PackageDescription: 100-Pin Plastic Thin Quad Flat Pack, 14 x 14 x 1.0 mm Body, 0.5 mm Pitch; Code_JEITA: P-TQFP100-14x14-0.50; ComponentLink1Description: Manufacturer Link; ComponentLink1URL: http://sg.renesas.com/fmwk.jsp?cnt=h8s_family_landing.jsp&fp=/products/mpumcu/h8s_family/; ComponentLink2Description: Datasheet; ComponentLink2URL: http://documentation.renesas.com/eng/products/mpumcu/rej09b0355_2245hm.pdf; ComponentLink3Description: Packaging Specification; ComponentLink3URL: http://sg.renesas.com/media/products/common_info/package/pdf/ic/code/ptqp0100ka_a.pdf
footprint PTQP0100KA-A_N (Thin QFP, 100-Leads, Body 14x14mm, Pitch 0.5mm, IPC Medium Density)
footprint PTQP0100KA-A_L (Thin QFP, 100-Leads, Body 14x14mm, Pitch 0.5mm, IPC High Density)
footprint PTQP0100KA-A_M (Thin QFP, 100-Leads, Body 14x14mm, Pitch 0.5mm, IPC Low Density)
part A pins: 1 P12/TIOCC0/TCLKA/A22 (io), 2 P13/TIOCD0/TCLKB/A23 (io), 3 P14/TIOCA1 (io), 4 P15/TIOCB1/TCLKC (io), 5 P16/TIOCA2 (io), 6 P17/TIOCB2/TCLKD (io), 8 P30/TXD0 (io), 9 P31/TXD1 (io), 10 P32/RXD0 (io), 11 P33/RXD1 (io), 12 P34/SCK0/~{IRQ4} (io), 13 P35/SCK1/~{IRQ5} (io), 14 PE0/D0 (io), 15 PE1/D1 (io), 16 PE2/D2 (io), 17 PE3/D3 (io), 19 PE4/D4 (io), 20 PE5/D5 (io), 21 PE6/D6 (io), 22 PE7/D7 (io), 23 PD0/D8 (io), 24 PD1/D9 (io), 25 PD2/D10 (io), 26 PD3/D11 (io), 27 PD4/D12 (io), 28 PD5/D13 (io), 29 PD6/D14 (io), 30 PD7/D15 (io), 32 PC0/A0 (io), 33 PC1/A1 (io), 34 PC2/A2 (io), 35 PC3/A3 (io), 36 PC4/A4 (io), 37 PC5/A5 (io), 38 PC6/A6 (io), 39 PC7/A7 (io), 41 PB0/A8 (io), 42 PB1/A9 (io), 43 PB2/A10 (io), 44 PB3/A11 (io), 45 PB4/A12 (io), 46 PB5/A13 (io), 47 PB6/A14 (io), 48 PB7/A15 (io), 50 PA0/A16 (io), 51 PA1/A17 (io), 52 PA2/A18 (io), 53 PA3/A19 (io), 54 P50/TXD2 (io), 55 P51/RXD2 (io), 56 P52/SCK2 (io), 57 MD0 (in), 58 MD1 (in), 59 P53 (io), 60 ~{WDTOVF} (out), 61 MD2 (in), 62 ~{RES} (in), 63 NMI (in), 64 ~{STBY} (in), 66 XTAL (in), 67 EXTAL (in), 69 PF7/F (io), 70 PF6/~{AS} (io), 71 PF5/~{RD} (io), 72 PF4/~{HWR} (io), 73 PF3/~{LWR}/~{IRQ3} (io), 74 PF2/~{WAIT}/~{BREQO}/~{IRQ2} (io), 75 PF1/~{BACK}/~{IRQ1} (io), 76 PF0/~{IRQ0}/~{BREQ} (io), 78 VREF (in), 79 P40/AN0 (io), 80 P41/AN1 (io), 81 P42/AN2 (io), 82 P43/AN3 (io), 85 P20 (io), 86 P21 (io), 87 P22/TMRI0 (io), 88 P23/TMCI0 (io), 89 P24/TMRI1 (io), 90 P25/TMCI1 (io), 91 P26/TMO0 (io), 92 P27/TMO1 (io), 93 PG0/~{ADTRG}/~{IRQ6} (io), 94 PG1/CS3/~{IRQ7} (io), 95 PG2/CS2 (io), 96 PG3/CS1 (io), 97 PG4/CS0 (io), 99 P10/TIOCA0/A20 (io), 100 P11/TIOCB0/A21 (io)
part B pins: 7 VSS (power), 18 VSS (power), 31 VSS (power), 40 VCC (power), 49 VSS (power), 65 VCC (power), 68 VSS (power), 77 AVCC (power), 83 AVSS (power), 84 VSS (power), 98 VCC (power)

## HD6432246XXXFA
designator U?
Mask ROM H8S/2200 Series, 2245 Group MCU, 128K ROM, 8K RAM, FP-100B Pkg; Published: 28-Aug-2009; DatasheetVersion: Rev.3.00, Mar-2007; PackageVersion: Sep-2009; PackageReference: PRQP0100KA-A; Publisher: Altium Limited; PackageDescription: 100-Pin Plastic Quad Flat Pack, 14 x 14 x 2.7 mm Body, 0.5 mm Pitch; Code_JEITA: P-QFP100-14x14-0.50; ComponentLink1Description: Manufacturer Link; ComponentLink1URL: http://sg.renesas.com/fmwk.jsp?cnt=h8s_family_landing.jsp&fp=/products/mpumcu/h8s_family/; ComponentLink2Description: Datasheet; ComponentLink2URL: http://documentation.renesas.com/eng/products/mpumcu/rej09b0355_2245hm.pdf; ComponentLink3Description: Packaging Specification; ComponentLink3URL: http://sg.renesas.com/media/products/common_info/package/pdf/ic/code/prqp0100ka_a.pdf
footprint PRQP0100KA-A_N (Shrink QFP, 100-Leads, Body 14x14mm, Pitch 0.5mm, IPC Medium Density)
footprint PRQP0100KA-A_L (Shrink QFP, 100-Leads, Body 14x14mm, Pitch 0.5mm, IPC High Density)
footprint PRQP0100KA-A_M (Shrink QFP, 100-Leads, Body 14x14mm, Pitch 0.5mm, IPC Low Density)
part A pins: 1 P12/TIOCC0/TCLKA/A22 (io), 2 P13/TIOCD0/TCLKB/A23 (io), 3 P14/TIOCA1 (io), 4 P15/TIOCB1/TCLKC (io), 5 P16/TIOCA2 (io), 6 P17/TIOCB2/TCLKD (io), 8 P30/TXD0 (io), 9 P31/TXD1 (io), 10 P32/RXD0 (io), 11 P33/RXD1 (io), 12 P34/SCK0/~{IRQ4} (io), 13 P35/SCK1/~{IRQ5} (io), 14 PE0/D0 (io), 15 PE1/D1 (io), 16 PE2/D2 (io), 17 PE3/D3 (io), 19 PE4/D4 (io), 20 PE5/D5 (io), 21 PE6/D6 (io), 22 PE7/D7 (io), 23 PD0/D8 (io), 24 PD1/D9 (io), 25 PD2/D10 (io), 26 PD3/D11 (io), 27 PD4/D12 (io), 28 PD5/D13 (io), 29 PD6/D14 (io), 30 PD7/D15 (io), 32 PC0/A0 (io), 33 PC1/A1 (io), 34 PC2/A2 (io), 35 PC3/A3 (io), 36 PC4/A4 (io), 37 PC5/A5 (io), 38 PC6/A6 (io), 39 PC7/A7 (io), 41 PB0/A8 (io), 42 PB1/A9 (io), 43 PB2/A10 (io), 44 PB3/A11 (io), 45 PB4/A12 (io), 46 PB5/A13 (io), 47 PB6/A14 (io), 48 PB7/A15 (io), 50 PA0/A16 (io), 51 PA1/A17 (io), 52 PA2/A18 (io), 53 PA3/A19 (io), 54 P50/TXD2 (io), 55 P51/RXD2 (io), 56 P52/SCK2 (io), 57 MD0 (in), 58 MD1 (in), 59 P53 (io), 60 ~{WDTOVF} (out), 61 MD2 (in), 62 ~{RES} (in), 63 NMI (in), 64 ~{STBY} (in), 66 XTAL (in), 67 EXTAL (in), 69 PF7/F (io), 70 PF6/~{AS} (io), 71 PF5/~{RD} (io), 72 PF4/~{HWR} (io), 73 PF3/~{LWR}/~{IRQ3} (io), 74 PF2/~{WAIT}/~{BREQO}/~{IRQ2} (io), 75 PF1/~{BACK}/~{IRQ1} (io), 76 PF0/~{IRQ0}/~{BREQ} (io), 78 VREF (in), 79 P40/AN0 (io), 80 P41/AN1 (io), 81 P42/AN2 (io), 82 P43/AN3 (io), 85 P20 (io), 86 P21 (io), 87 P22/TMRI0 (io), 88 P23/TMCI0 (io), 89 P24/TMRI1 (io), 90 P25/TMCI1 (io), 91 P26/TMO0 (io), 92 P27/TMO1 (io), 93 PG0/~{ADTRG}/~{IRQ6} (io), 94 PG1/CS3/~{IRQ7} (io), 95 PG2/CS2 (io), 96 PG3/CS1 (io), 97 PG4/CS0 (io), 99 P10/TIOCA0/A20 (io), 100 P11/TIOCB0/A21 (io)
part B pins: 7 VSS (power), 18 VSS (power), 31 VSS (power), 40 VCC (power), 49 VSS (power), 65 VCC (power), 68 VSS (power), 77 AVCC (power), 83 AVSS (power), 84 VSS (power), 98 VCC (power)